# Altium schematic symbol library Dart_Controller_Schlib.SchLib: 218 symbols (part 1 of 2)
Pins are listed as number, name and electrical type; pins without a type are passive.

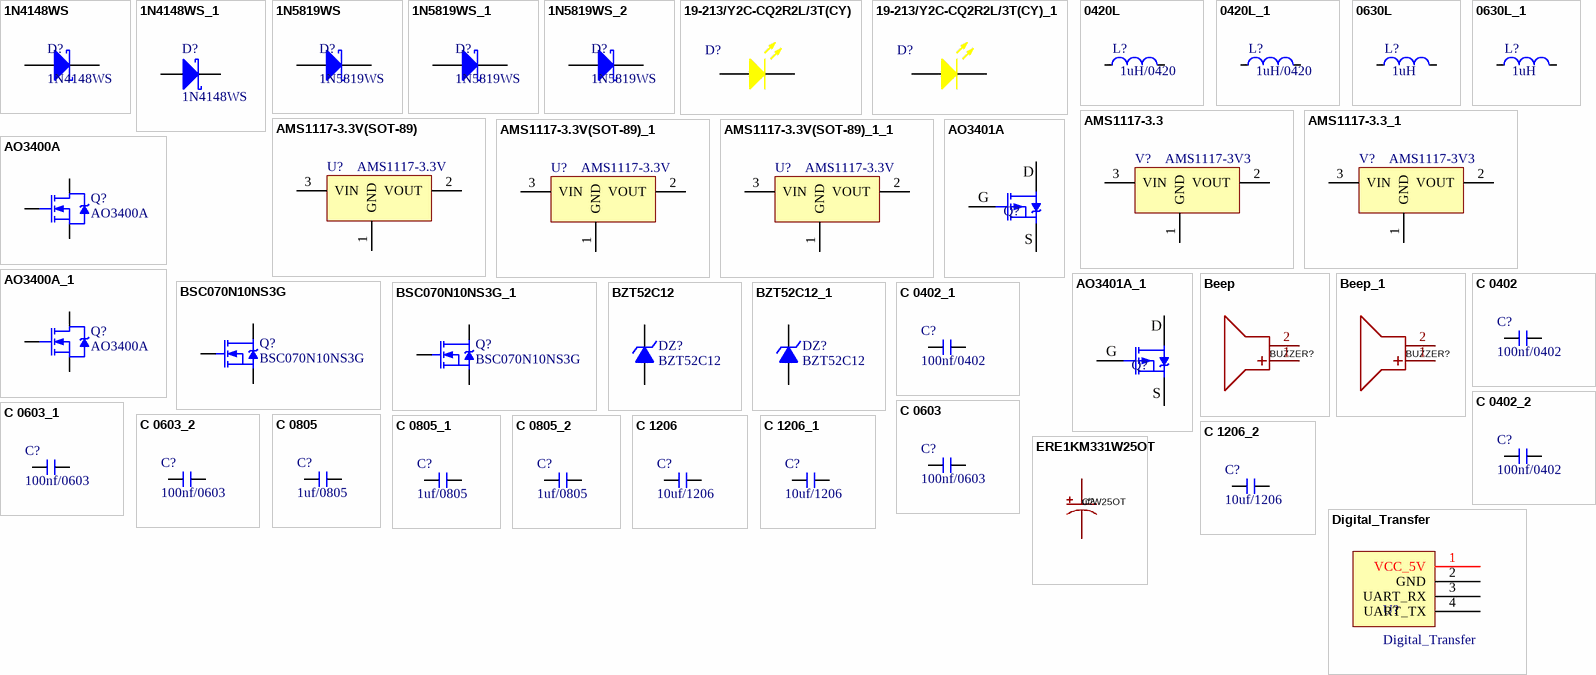
[diagram p0: symbols 1N4148WS to ERE1KM331W25OT]

## 1N4148WS
designator D?
开关二极管; BOM名称: 肖特基二极管; 学习资源: https://shop463601444.taobao.com
footprint SOD-323_L1.8-W1.3-LS2.5-RD
pins: 1 A, 2 K

## 1N4148WS_1
designator D?, comment 1N4148WS
开关二极管; BOM名称: 肖特基二极管; 属性: 40V/1A; 封装库来自淘宝 ID：黄晶宝石: https://shop463601444.taobao.com
footprint SOD-323_L1.8-W1.3-LS2.5-RD
pins: 1 A, 2 K

## 1N5819WS
designator D?
肖特基二极管; BOM名称: 肖特基二极管; 学习资源: https://shop463601444.taobao.com
footprint SOD-323_L1.8-W1.3-LS2.5-RD
pins: 1 A, 2 K

## 1N5819WS_1
designator D?, comment 1N5819WS
肖特基二极管; BOM名称: 肖特基二极管; 学习资源: https://shop463601444.taobao.com
footprint SOD-323_L1.8-W1.3-LS2.5-RD
pins: 1 A, 2 K

## 1N5819WS_2
designator D?, comment 1N5819WS
肖特基二极管; BOM名称: 肖特基二极管; 学习资源: https://shop463601444.taobao.com
footprint SOD-323_L1.8-W1.3-LS2.5-RD
pins: 1 A, 2 K

## 19-213/Y2C-CQ2R2L/3T(CY)
designator D?, comment LED_Y/0603  (value not drawn)
发光二极管/黄色; Published: 8-Jun-2000; LatestRevisionDate: 08-Jul-2005; LatestRevisionNote: Mech Layer 1 removed.; PackageReference: LED-0; Publisher: Altium Limited
footprint LED0603-RD-YELLOW
pins: A, K

## 19-213/Y2C-CQ2R2L/3T(CY)_1
designator D?, comment LED_Y/0603  (value not drawn)
发光二极管/黄色; Published: 8-Jun-2000; LatestRevisionDate: 08-Jul-2005; LatestRevisionNote: Mech Layer 1 removed.; PackageReference: LED-0; Publisher: Altium Limited
footprint LED0603-RD-YELLOW
pins: A, K

## 0420L
designator L?, comment 1uH/0420
功率电感
footprint IND-SMD_L4.4-W4.2
pins: 1, 2

## 0420L_1
designator L?, comment 1uH/0420
功率电感
footprint IND-SMD_L4.4-W4.2
pins: 1, 2

## 0630L
designator L?, comment 1uH
功率电感
footprint L-SMD-0630 (一体化成型电感)
pins: 1, 2

## 0630L_1
designator L?, comment 1uH
功率电感
footprint L-SMD-0630 (一体化成型电感)
pins: 1, 2

## AMS1117-3.3
designator V?, comment AMS1117-3V3
线性稳压; BOM名称: 稳压芯片; 淘宝ID: 封装库来自淘宝 ID：黄晶宝石; 欢迎光临淘宝店铺: https://shop463601444.taobao.com
footprint SOT-223 (封装库来自淘宝卖家 ID：黄晶宝石)
pins: 1 GND, 2 VOUT, 3 VIN

## AMS1117-3.3_1
designator V?, comment AMS1117-3V3
线性稳压; BOM名称: 稳压芯片; 淘宝ID: 封装库来自淘宝 ID：黄晶宝石; 欢迎光临淘宝店铺: https://shop463601444.taobao.com
footprint SOT-223 (封装库来自淘宝卖家 ID：黄晶宝石)
pins: 1 GND, 2 VOUT, 3 VIN

## AMS1117-3.3V(SOT-89)
designator U?, comment AMS1117-3.3V
LDO; BOM名称: 稳压芯片; 淘宝ID: 封装库来自淘宝 ID：黄晶宝石; 欢迎光临淘宝店铺: https://shop463601444.taobao.com
footprint SOT-89 (封装库来自淘宝卖家 ID：黄晶宝石)
pins: 1 GND, 2 VOUT, 3 VIN

## AMS1117-3.3V(SOT-89)_1
designator U?, comment AMS1117-3.3V
LDO; BOM名称: 稳压芯片; 淘宝ID: 封装库来自淘宝 ID：黄晶宝石; 欢迎光临淘宝店铺: https://shop463601444.taobao.com
footprint SOT-89 (封装库来自淘宝卖家 ID：黄晶宝石)
pins: 1 GND, 2 VOUT, 3 VIN

## AMS1117-3.3V(SOT-89)_1_1
designator U?, comment AMS1117-3.3V
LDO; BOM名称: 稳压芯片; 淘宝ID: 封装库来自淘宝 ID：黄晶宝石; 欢迎光临淘宝店铺: https://shop463601444.taobao.com
footprint SOT-89 (封装库来自淘宝卖家 ID：黄晶宝石)
pins: 1 GND, 2 VOUT, 3 VIN

## AO3400A
designator Q?
NMOS; Note: Pin 2 is electrically connected to pin 4.; Published: 8-Jun-2000; LatestRevisionDate: 17-Jul-2002; LatestRevisionNote: Re-released for DXP Platform.; DatasheetVersion: PD-9.814; PackageVersion: Feb-1997; PackageReference: TO-220AB; Publisher: Altium Limited; PackageDescription: TO, Thru-Hole, Vertical, Heatsink Mounted; 3 In-Line Leads; Pitch 2.54 mm; ComponentLink1Description: Manufacturer Link; ComponentLink1URL: http://www.irf.com/
footprint SOT23-3L (3x1.3x1mm(长宽高)    封装库来自淘宝卖家 ID：黄晶宝石)
pins: 1 G, 2 S, 3 D

## AO3400A_1
designator Q?, comment AO3400A
NMOS; Note: Pin 2 is electrically connected to pin 4.; Published: 8-Jun-2000; LatestRevisionDate: 17-Jul-2002; LatestRevisionNote: Re-released for DXP Platform.; DatasheetVersion: PD-9.814; PackageVersion: Feb-1997; PackageReference: TO-220AB; Publisher: Altium Limited; PackageDescription: TO, Thru-Hole, Vertical, Heatsink Mounted; 3 In-Line Leads; Pitch 2.54 mm; ComponentLink1Description: Manufacturer Link; ComponentLink1URL: http://www.irf.com/
footprint SOT23-3L (3x1.3x1mm(长宽高)    封装库来自淘宝卖家 ID：黄晶宝石)
pins: 1 G, 2 S, 3 D

## AO3401A
designator Q?  (value not drawn)
PMOS; BOM名称: P沟道场效应管; 版权归属: 源创客; 学习资源: www.ooocke.com
footprint SOT23-3L (3x1.3x1mm(长宽高)    封装库来自淘宝卖家 ID：黄晶宝石)
pins: 1 G, 2 S, 3 D

## AO3401A_1
designator Q?, comment AO3401A  (value not drawn)
PMOS; BOM名称: P沟道场效应管; 版权归属: 源创客; 学习资源: www.ooocke.com
footprint SOT23-3L (3x1.3x1mm(长宽高)    封装库来自淘宝卖家 ID：黄晶宝石)
pins: 1 G, 2 S, 3 D

## Beep
designator BUZZER?, comment 2.7kHz  (value not drawn)
YS-SBZ9650DYB05; Manufacturer: Fengming(锋鸣电子); Symbol: YS-SBZ9650DYB05_C409830; Add into BOM: yes; Oscillator Circuit: 有源(内含驱动线路); Operating Voltage: 3V~7V; Sound Pressure Level (SPL): 80dB@5V,10cm; Device: YS-SBZ9650DYB05; LCSC Part Name: 贴片有源蜂鸣器5V; Supplier Part: C409830; Manufacturer Part: YS-SBZ9650DYB05; Supplier Footprint: SMD,9.6x9.6mm; JLCPCB Part Class: Extended Part; Datasheet: https://atta.szlcsc.com/upload/public/pdf/source/20191217/C409830_8EC3C70066086F723D62F9967ED58A07.pdf; Supplier: LCSC; Convert to PCB: yes; Value: 2.7kHz; Length: 9.6mm; Width: 9.6mm; Height: 5.3mm
footprint Beep
pins: 1 +, 2 -

## Beep_1
designator BUZZER?, comment 2.7kHz  (value not drawn)
YS-SBZ9650DYB05; Manufacturer: Fengming(锋鸣电子); Symbol: YS-SBZ9650DYB05_C409830; Add into BOM: yes; Oscillator Circuit: 有源(内含驱动线路); Operating Voltage: 3V~7V; Sound Pressure Level (SPL): 80dB@5V,10cm; Device: YS-SBZ9650DYB05; LCSC Part Name: 贴片有源蜂鸣器5V; Supplier Part: C409830; Manufacturer Part: YS-SBZ9650DYB05; Supplier Footprint: SMD,9.6x9.6mm; JLCPCB Part Class: Extended Part; Datasheet: https://atta.szlcsc.com/upload/public/pdf/source/20191217/C409830_8EC3C70066086F723D62F9967ED58A07.pdf; Supplier: LCSC; Convert to PCB: yes; Value: 2.7kHz; Length: 9.6mm; Width: 9.6mm; Height: 5.3mm
footprint Beep
pins: 1 +, 2 -

## BSC070N10NS3G
designator Q?
N沟道场效应管
footprint PG-TDSON-8
pins: D, G, S

## BSC070N10NS3G_1
designator Q?, comment BSC070N10NS3G
N沟道场效应管
footprint PG-TDSON-8
pins: D, G, S

## BZT52C12
designator DZ?
稳压二极管; BOM名称: 3V/0.5W稳压管; 版权归属: 封装库来自淘宝 ID：黄晶宝石; 学习资源: www.ooocke.com
footprint BZT52C12 (稳压二级管)
pins: 1 A, 2 K

## BZT52C12_1
designator DZ?, comment BZT52C12
稳压二极管; BOM名称: 3V/0.5W稳压管; 版权归属: 封装库来自淘宝 ID：黄晶宝石; 学习资源: www.ooocke.com
footprint BZT52C12 (稳压二级管)
pins: 1 A, 2 K

## C 0402
designator C?, comment 100nf/0402
贴片电容; BOM名称: 无极性贴片电容; 淘宝ID: 封装库来自淘宝 ID：黄晶宝石; 联系售后: https://shop463601444.taobao.com
footprint C 0402_M (无极性贴片电容                                  淘宝ID:黄晶宝石)
pins: 1, 2

## C 0402_1
designator C?, comment 100nf/0402
贴片电容; BOM名称: 无极性贴片电容; 淘宝ID: 封装库来自淘宝 ID：黄晶宝石; 联系售后: https://shop463601444.taobao.com
footprint C 0402_M (无极性贴片电容                                  淘宝ID:黄晶宝石)
pins: 1, 2

## C 0402_2
designator C?, comment 100nf/0402
贴片电容; BOM名称: 无极性贴片电容; 淘宝ID: 封装库来自淘宝 ID：黄晶宝石; 联系售后: https://shop463601444.taobao.com
footprint C 0402_M (无极性贴片电容                                  淘宝ID:黄晶宝石)
pins: 1, 2

## C 0603
designator C?, comment 100nf/0603
贴片电容; BOM名称: 无极性贴片电容; 淘宝ID: 封装库来自淘宝 ID：黄晶宝石; 联系售后: https://shop463601444.taobao.com
footprint C 0603_M (无极性贴片电容                                淘宝ID:黄晶宝石)
pins: 1, 2

## C 0603_1
designator C?, comment 100nf/0603
贴片电容; BOM名称: 无极性贴片电容; 淘宝ID: 封装库来自淘宝 ID：黄晶宝石; 联系售后: https://shop463601444.taobao.com
footprint C 0603_M (无极性贴片电容                                淘宝ID:黄晶宝石)
pins: 1, 2

## C 0603_2
designator C?, comment 100nf/0603
贴片电容; BOM名称: 无极性贴片电容; 淘宝ID: 封装库来自淘宝 ID：黄晶宝石; 联系售后: https://shop463601444.taobao.com
footprint C 0603_M (无极性贴片电容                                淘宝ID:黄晶宝石)
pins: 1, 2

## C 0805
designator C?, comment 1uf/0805
贴片电容; BOM名称: 无极性贴片电容; 淘宝ID: 封装库来自淘宝 ID：黄晶宝石; 联系售后: https://shop463601444.taobao.com
footprint C 0805_M (无极性贴片电容                                         淘宝ID:黄晶宝石)
pins: 1, 2

## C 0805_1
designator C?, comment 1uf/0805
贴片电容; BOM名称: 无极性贴片电容; 淘宝ID: 封装库来自淘宝 ID：黄晶宝石; 联系售后: https://shop463601444.taobao.com
footprint C 0805_M (无极性贴片电容                                         淘宝ID:黄晶宝石)
pins: 1, 2

## C 0805_2
designator C?, comment 1uf/0805
贴片电容; BOM名称: 无极性贴片电容; 淘宝ID: 封装库来自淘宝 ID：黄晶宝石; 联系售后: https://shop463601444.taobao.com
footprint C 0805_M (无极性贴片电容                                         淘宝ID:黄晶宝石)
pins: 1, 2

## C 1206
designator C?, comment 10uf/1206
贴片电容; BOM名称: 无极性贴片电容; 淘宝ID: 封装库来自淘宝 ID：黄晶宝石; 联系售后: https://shop463601444.taobao.com
footprint C 1206_M (无极性贴片电容)
pins: 1, 2

## C 1206_1
designator C?, comment 10uf/1206
贴片电容; BOM名称: 无极性贴片电容; 淘宝ID: 封装库来自淘宝 ID：黄晶宝石; 联系售后: https://shop463601444.taobao.com
footprint C 1206_M (无极性贴片电容)
pins: 1, 2

## C 1206_2
designator C?, comment 10uf/1206
贴片电容; BOM名称: 无极性贴片电容; 淘宝ID: 封装库来自淘宝 ID：黄晶宝石; 联系售后: https://shop463601444.taobao.com
footprint C 1206_M (无极性贴片电容)
pins: 1, 2

## Digital_Transfer
designator U?
数传
footprint Digital_Transfer
pins: 1 VCC_5V, 2 GND, 3 UART_RX, 4 UART_TX

## ERE1KM331W25OT
designator C?, comment uf/W25OT
Manufacturer: AISHI(艾华集团); Symbol: ERE1KM331W25OT; Add into BOM: yes; Value: 330uF; Tolerance: ±20%; Rated Voltage: 100V; φD: 12.5mm; L: 25mm; Lifetime @ Temp: 4000hrs@105℃; Device: ERE1KM331W25OT; LCSC Part Name: 330uF ±20% 100V; Supplier Part: C383057; Manufacturer Part: ERE1KM331W25OT; Supplier Footprint: 插件,D12.5xL25mm; JLCPCB Part Class: Extended Part; Datasheet: https://atta.szlcsc.com/upload/public/pdf/source/20190702/C401559_D116D2C5ED42D458EC9986A0749FDD04.pdf; Supplier: LCSC; Convert to PCB: yes; Ripple Current: -; Equivalent Series Resistance(ESR): -; Lead Spacing: 5mm
footprint ERE1KM331W25OT
pins: 1, 2

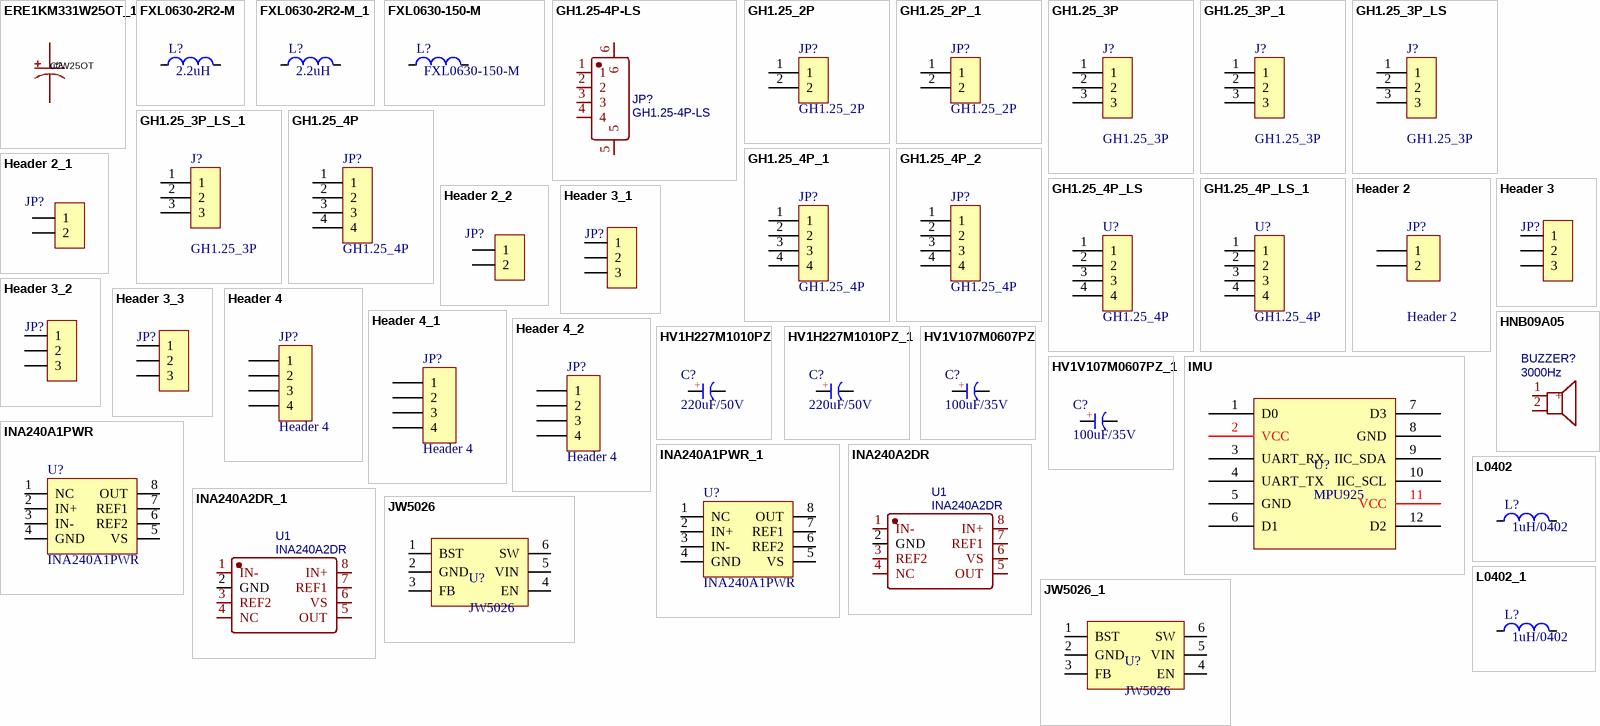
[diagram p1: symbols ERE1KM331W25OT_1 to L0402_1]

## ERE1KM331W25OT_1
designator C?, comment uf/W25OT
Manufacturer: AISHI(艾华集团); Symbol: ERE1KM331W25OT; Add into BOM: yes; Value: 330uF; Tolerance: ±20%; Rated Voltage: 100V; φD: 12.5mm; L: 25mm; Lifetime @ Temp: 4000hrs@105℃; Device: ERE1KM331W25OT; LCSC Part Name: 330uF ±20% 100V; Supplier Part: C383057; Manufacturer Part: ERE1KM331W25OT; Supplier Footprint: 插件,D12.5xL25mm; JLCPCB Part Class: Extended Part; Datasheet: https://atta.szlcsc.com/upload/public/pdf/source/20190702/C401559_D116D2C5ED42D458EC9986A0749FDD04.pdf; Supplier: LCSC; Convert to PCB: yes; Ripple Current: -; Equivalent Series Resistance(ESR): -; Lead Spacing: 5mm
footprint ERE1KM331W25OT
pins: 1, 2

## FXL0630-2R2-M
designator L?, comment 2.2uH
功率电感
footprint FXL0630-2R2-M (功率电感 2.2uh)
pins: 1, 2

## FXL0630-2R2-M_1
designator L?, comment 2.2uH
功率电感
footprint FXL0630-2R2-M (功率电感 2.2uh)
pins: 1, 2

## FXL0630-150-M
designator L?
功率电感
footprint L-SMD-0630 (一体化成型电感)
pins: 1, 2

## GH1.25-4P-LS
designator JP?
Manufacturer: XUNPU(讯普); Manufacturer Part: WAFER-GH1.25-4PLB; Contributor: lcsc; Supplier: LCSC; Supplier Part: C3029370; JLCPCB Part Class: Extended Part; spicePre: U; spiceSymbolName: WAFER-GH1.25-4PLB
footprint GH1.25-LS-4P (A1257WR-S-4P)
pins: 1, 2, 3, 4, 5, 6

## GH1.25_2P
designator JP?
footprint GH1.25-WS-2P (卧贴)
pins: 1, 2

## GH1.25_2P_1
designator JP?, comment GH1.25_2P
footprint GH1.25-WS-2P (卧贴)
pins: 1, 2

## GH1.25_3P
designator J?
footprint GH1.25-WS-3P (A1257WR-S-3P)
pins: 1, 2, 3

## GH1.25_3P_1
designator J?, comment GH1.25_3P
footprint GH1.25-WS-3P (A1257WR-S-3P)
pins: 1, 2, 3

## GH1.25_3P_LS
designator J?, comment GH1.25_3P
footprint GH1.25-LS-3P (A1257WR-S-3P)
pins: 1, 2, 3

## GH1.25_3P_LS_1
designator J?, comment GH1.25_3P
footprint GH1.25-LS-3P (A1257WR-S-3P)
pins: 1, 2, 3

## GH1.25_4P
designator JP?
GH1,25_4P
footprint GH1.25-WS-4P (卧贴)
pins: 1, 2, 3, 4

## GH1.25_4P_1
designator JP?, comment GH1.25_4P
GH1,25_4P
footprint GH1.25-WS-4P (卧贴)
pins: 1, 2, 3, 4

## GH1.25_4P_2
designator JP?, comment GH1.25_4P
GH1,25_4P
footprint GH1.25-WS-4P (卧贴)
pins: 1, 2, 3, 4

## GH1.25_4P_LS
designator U?, comment GH1.25_4P
footprint GH1.25-LS-4P (A1257WR-S-4P)
pins: 1, 2, 3, 4

## GH1.25_4P_LS_1
designator U?, comment GH1.25_4P
footprint GH1.25-LS-4P (A1257WR-S-4P)
pins: 1, 2, 3, 4

## Header 2
designator JP?
Header, 2-Pin; LatestRevisionDate: 17-Jul-2002; LatestRevisionNote: Re-released for DXP Platform.; Publisher: Altium Limited
footprint HDR2.54-LI-2P (封装库来自淘宝卖家 ID：黄晶宝石)
pins: 1, 2

## Header 2_1
designator JP?, comment HDR-1X2  (value not drawn)
2P接插件; 版权归属: 封装库来自淘宝 ID：黄晶宝石; BOM名称: 2P接插件; 联系售后: https://shop463601444.taobao.com
footprint HDR2.54-LI-2P (封装库来自淘宝卖家 ID：黄晶宝石)
pins: 1, 2

## Header 2_2
designator JP?, comment HDR-1X2  (value not drawn)
2P接插件; 版权归属: 封装库来自淘宝 ID：黄晶宝石; BOM名称: 2P接插件; 联系售后: https://shop463601444.taobao.com
footprint HDR2.54-LI-2P (封装库来自淘宝卖家 ID：黄晶宝石)
pins: 1, 2

## Header 3
designator JP?, comment HDR-1X3  (value not drawn)
3P接插件; 版权归属: 封装库来自淘宝 ID：黄晶宝石; BOM名称: 3P接插件; 学习资源: https://shop463601444.taobao.com
footprint XH2.54-WI-3P (接插件，3P)
pins: 1, 2, 3

## Header 3_1
designator JP?, comment HDR-1X3  (value not drawn)
3P接插件; 版权归属: 封装库来自淘宝 ID：黄晶宝石; BOM名称: 3P接插件; 学习资源: https://shop463601444.taobao.com
footprint XH2.54-LI-3P (接插件，3P  淘宝ID:黄晶宝石   店铺网址:https://shop463601444.taobao.com)
pins: 1, 2, 3

## Header 3_2
designator JP?, comment HDR-1X3  (value not drawn)
3P接插件; 版权归属: 封装库来自淘宝 ID：黄晶宝石; BOM名称: 3P接插件; 学习资源: https://shop463601444.taobao.com
footprint HDR2.54-LI-3P (排针，3脚)
pins: 1, 2, 3

## Header 3_3
designator JP?, comment HDR-1X3  (value not drawn)
3P接插件; 版权归属: 封装库来自淘宝 ID：黄晶宝石; BOM名称: 3P接插件; 学习资源: https://shop463601444.taobao.com
footprint XH2.54-WI-3P (接插件，3P)
footprint XH2.54-LI-3P (接插件，3P)
footprint HDR2.54-LI-3P (排针，3脚)
footprint HDR2.54-M-LI-3P (排母，3脚)
footprint HDR2.54-WI-3P (弯脚排针，3脚)
footprint HDR2.54-WS-3P (3P卧式贴片排针2.54)
footprint HDR2.54-Y-LI-3P (圆孔排母，3脚)
footprint HDR2.54-M-WS-3P (3P卧式贴片排母2.54)
footprint KF2510-LI-3P (接插件/2A)
footprint XH2.54-WS-3P (长：12.5mm，宽：8mm，高：6.1mm)
footprint XH2.54-LS-3P (长：12.5mm，宽：6mm，高：8.3mm)
footprint KF2EDGK-2.54-LI-3P (长：9.52mm，宽：8.1mm，高：10.1mm)
footprint KF2EDGK-2.54-WI-3P (长：9.52mm，宽：10.1mm，高：8.1mm)
pins: 1, 2, 3

## Header 4
designator JP?
Header, 4-Pin; LatestRevisionDate: 17-Jul-2002; LatestRevisionNote: Re-released for DXP Platform.; Publisher: Altium Limited
footprint HDR2.54-LI-4P (排针，4脚)
pins: 1, 2, 3, 4

## Header 4_1
designator JP?, comment Header 4
Header, 4-Pin; LatestRevisionDate: 17-Jul-2002; LatestRevisionNote: Re-released for DXP Platform.; Publisher: Altium Limited
footprint HDR2.54-LI-4P (排针，4脚)
pins: 1, 2, 3, 4

## Header 4_2
designator JP?, comment Header 4
Header, 4-Pin; LatestRevisionDate: 17-Jul-2002; LatestRevisionNote: Re-released for DXP Platform.; Publisher: Altium Limited
footprint HDR2.54-LI-4P (排针，4脚)
pins: 1, 2, 3, 4

## HNB09A05
designator BUZZER?, comment 3000Hz
蜂鸣器; Manufacturer: 华能; Manufacturer Part: HNB09A05; nameAlias: Value; Supplier: LCSC; Supplier Part: C96493; JLCPCB Part Class: Extended Part; spicePre: B; spiceSymbolName: HNB09A05
footprint BUZ-TH_BD9.6-P5.00-D0.7-FD
pins: 1 +, 2

## HV1H227M1010PZ
designator C?, comment 220uF/50V
固态电容220uF/50V; BOM名称: 直插电解电容; 淘宝ID: 封装库来自淘宝 ID：黄晶宝石; 联系售后: https://shop463601444.taobao.com
footprint CM F(10*10.2) (贴片电解电容，直径10mm，高10.2mm    淘宝ID:黄晶宝石)
pins: 1 A, 2 K
text: +

## HV1H227M1010PZ_1
designator C?, comment 220uF/50V
固态电容220uF/50V; BOM名称: 直插电解电容; 淘宝ID: 封装库来自淘宝 ID：黄晶宝石; 联系售后: https://shop463601444.taobao.com
footprint CM F(10*10.2) (贴片电解电容，直径10mm，高10.2mm    淘宝ID:黄晶宝石)
pins: 1 A, 2 K
text: +

## HV1V107M0607PZ
designator C?, comment 100uF/35V
固态电容100uF/35V; BOM名称: 直插电解电容; 淘宝ID: 封装库来自淘宝 ID：黄晶宝石; 联系售后: https://shop463601444.taobao.com
footprint CM D(6.3*7.7) (贴片电解电容，直径6.3mm，高7.7mm         淘宝ID:黄晶宝石)
pins: 1 A, 2 K
text: +

## HV1V107M0607PZ_1
designator C?, comment 100uF/35V
固态电容100uF/35V; BOM名称: 直插电解电容; 淘宝ID: 封装库来自淘宝 ID：黄晶宝石; 联系售后: https://shop463601444.taobao.com
footprint CM D(6.3*7.7) (贴片电解电容，直径6.3mm，高7.7mm         淘宝ID:黄晶宝石)
pins: 1 A, 2 K
text: +

## IMU
designator U?, comment MPU925
footprint JY901B_MPU9250
pins: 1 D0, 2 VCC, 3 UART_RX, 4 UART_TX, 5 GND, 6 D1, 7 D3, 8 GND, 9 IIC_SDA, 10 IIC_SCL, 11 VCC, 12 D2

## INA240A1PWR
designator U?
电流感应放大器
footprint SSOP8 (SSOP, Plastic; 8 Leads; Body Width 5.3 mm; Pitch 0.65 mm)
pins: 1 NC, 2 IN+, 3 IN-, 4 GND, 5 VS, 6 REF2, 7 REF1, 8 OUT

## INA240A1PWR_1
designator U?, comment INA240A1PWR
电流感应放大器
footprint SSOP8 (SSOP, Plastic; 8 Leads; Body Width 5.3 mm; Pitch 0.65 mm)
pins: 1 NC, 2 IN+, 3 IN-, 4 GND, 5 VS, 6 REF2, 7 REF1, 8 OUT

## INA240A2DR
designator U1
电流放大器; Manufacturer: TI(德州仪器); Contributor: LCSC; Supplier: LCSC; Supplier Part: C2060768; Manufacturer Part: INA240A2DR; JLCPCB Part Class: Extended Part; spicePre: U; spiceSymbolName: INA240A2DR
footprint SOP8_N
pins: 1 IN-, 2 GND, 3 REF2, 4 NC, 5 OUT, 6 VS, 7 REF1, 8 IN+

## INA240A2DR_1
designator U1, comment INA240A2DR
电流放大器; Manufacturer: TI(德州仪器); Contributor: LCSC; Supplier: LCSC; Supplier Part: C2060768; Manufacturer Part: INA240A2DR; JLCPCB Part Class: Extended Part; spicePre: U; spiceSymbolName: INA240A2DR
footprint SOP8_N
pins: 1 IN-, 2 GND, 3 REF2, 4 NC, 5 OUT, 6 VS, 7 REF1, 8 IN+

## JW5026
designator U?
降压芯片
footprint SOT23-6N (3x1.6x1.1mm(长宽高))
pins: 1 BST, 2 GND, 3 FB, 4 EN, 5 VIN, 6 SW

## JW5026_1
designator U?, comment JW5026
降压芯片
footprint SOT23-6N (3x1.6x1.1mm(长宽高))
pins: 1 BST, 2 GND, 3 FB, 4 EN, 5 VIN, 6 SW

## L0402
designator L?, comment 1uH/0402
贴片电感
footprint L 0402 (小功率贴片电感        淘宝ID:黄晶宝石)
pins: 1, 2

## L0402_1
designator L?, comment 1uH/0402
贴片电感
footprint L 0402 (小功率贴片电感        淘宝ID:黄晶宝石)
pins: 1, 2

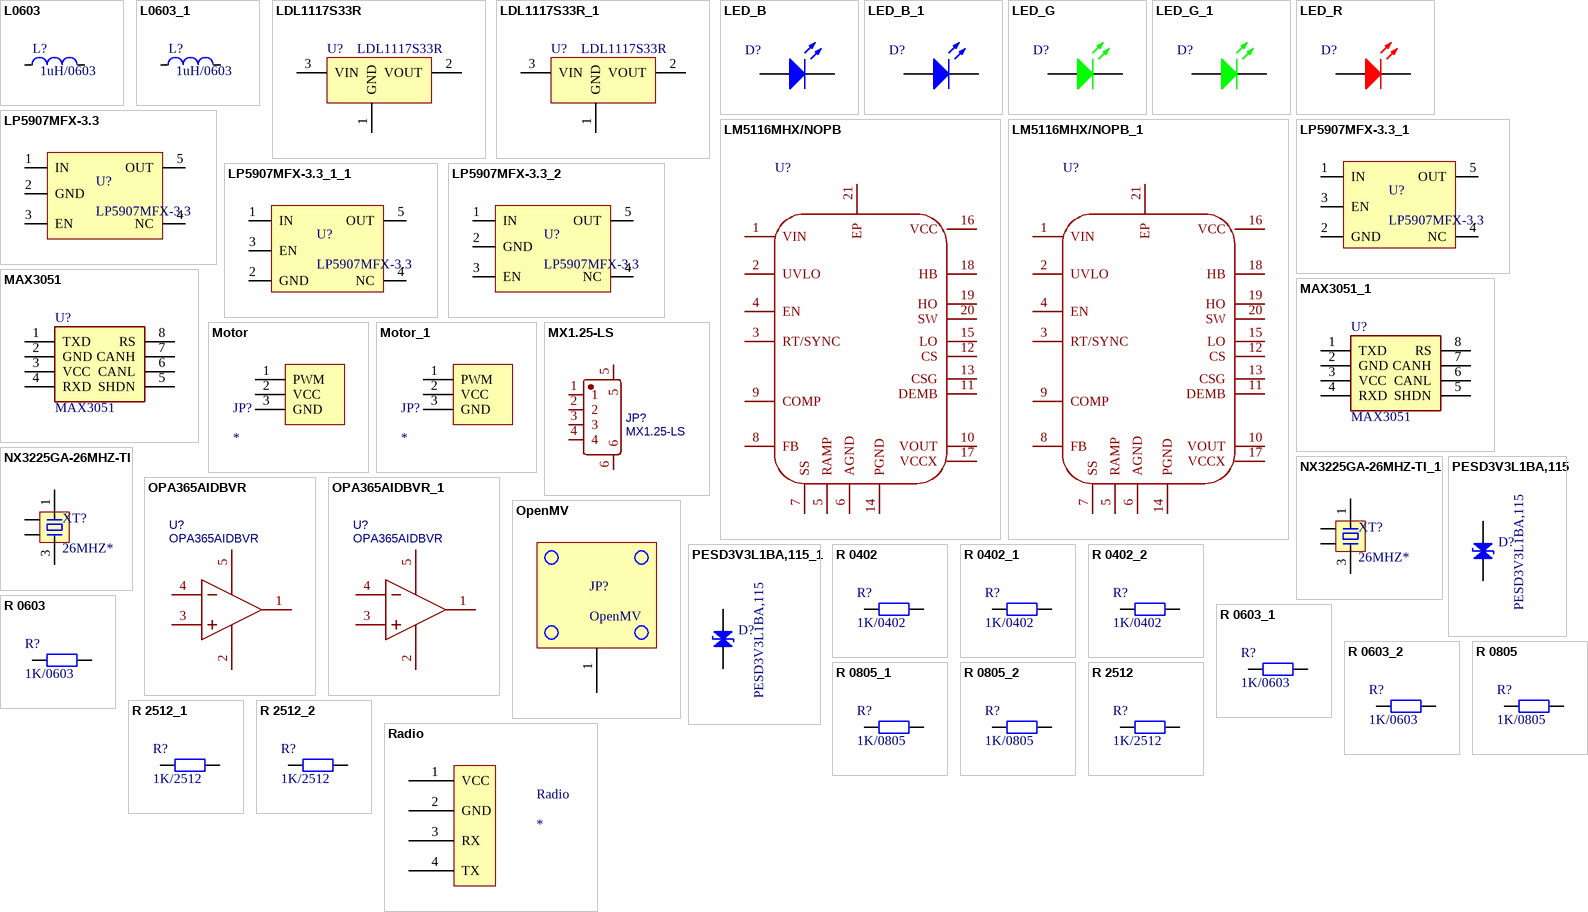
[diagram p2: symbols L0603 to Radio]

## L0603
designator L?, comment 1uH/0603
贴片电感
footprint L 0603 (小功率贴片电感        淘宝ID:黄晶宝石)
pins: 1, 2

## L0603_1
designator L?, comment 1uH/0603
贴片电感
footprint L 0603 (小功率贴片电感        淘宝ID:黄晶宝石)
pins: 1, 2

## LDL1117S33R
designator U?
线性稳压; BOM名称: 稳压芯片; 淘宝ID: 封装库来自淘宝 ID：黄晶宝石; 欢迎光临淘宝店铺: https://shop463601444.taobao.com
footprint SOT-223 (封装库来自淘宝卖家 ID：黄晶宝石)
pins: 1 GND, 2 VOUT, 3 VIN

## LDL1117S33R_1
designator U?, comment LDL1117S33R
线性稳压; BOM名称: 稳压芯片; 淘宝ID: 封装库来自淘宝 ID：黄晶宝石; 欢迎光临淘宝店铺: https://shop463601444.taobao.com
footprint SOT-223 (封装库来自淘宝卖家 ID：黄晶宝石)
pins: 1 GND, 2 VOUT, 3 VIN

## LED_B
designator D?, comment LED_B/0603  (value not drawn)
发光二极管; Published: 8-Jun-2000; LatestRevisionDate: 08-Jul-2005; LatestRevisionNote: Mech Layer 1 removed.; PackageReference: LED-0; Publisher: Altium Limited
footprint LED-0603B
pins: A, K

## LED_B_1
designator D?, comment LED_B/0603  (value not drawn)
发光二极管; Published: 8-Jun-2000; LatestRevisionDate: 08-Jul-2005; LatestRevisionNote: Mech Layer 1 removed.; PackageReference: LED-0; Publisher: Altium Limited
footprint LED-0603B
pins: A, K

## LED_G
designator D?, comment LED_G/0603  (value not drawn)
发光二极管; Published: 8-Jun-2000; LatestRevisionDate: 08-Jul-2005; LatestRevisionNote: Mech Layer 1 removed.; PackageReference: LED-0; Publisher: Altium Limited
footprint LED-0603G
pins: A, K

## LED_G_1
designator D?, comment LED_G/0603  (value not drawn)
发光二极管; Published: 8-Jun-2000; LatestRevisionDate: 08-Jul-2005; LatestRevisionNote: Mech Layer 1 removed.; PackageReference: LED-0; Publisher: Altium Limited
footprint LED-0603G
pins: A, K

## LED_R
designator D?, comment LED  (value not drawn)
发光二极管; Published: 8-Jun-2000; LatestRevisionDate: 08-Jul-2005; LatestRevisionNote: Mech Layer 1 removed.; PackageReference: LED-0; Publisher: Altium Limited
footprint LED0603-RD_RED
pins: 1 K, 2 A

## LM5116MHX/NOPB
designator U?  (value not drawn)
功能类型:降压型;输出类型:可调;工作电压:7V~60V;输出电压:1.215V~80V;输出电流:7A;; Manufacturer: TI(德州仪器); Add into BOM: yes; Function: 降压型; Output Type: 可调; Input Voltage: 7V~60V; Output Current: 7A; Switching Frequency: 50kHz~1MHz; Synchronous Rectification: 是; Number of Outputs: 1; Topology: 降压式; Quiescent Current (Iq): 10uA; Switch tube (built-in/external): 外置; Symbol: LM5116MHX; Device: LM5116MHX/NOPB; LCSC Part Name: 宽输入范围同步降压控制器; Supplier Part: C13755; Manufacturer Part: LM5116MHX/NOPB; Supplier Footprint: HTSSOP-20-EP; JLCPCB Part Class: 扩展库; Datasheet: https://www.ti.com/cn/lit/gpn/lm5116; Supplier: LCSC; Convert to PCB: yes; Output Voltage: 1.215V~80V; Operating Temperature: -40℃~+125℃
footprint LM5116MHX (HTSSOP-20-EP)
pins: 1 VIN, 2 UVLO, 3 RT/SYNC, 4 EN, 5 RAMP, 6 AGND, 7 SS, 8 FB, 9 COMP, 10 VOUT, 11 DEMB, 12 CS, 13 CSG, 14 PGND, 15 LO, 16 VCC, 17 VCCX, 18 HB, 19 HO, 20 SW, 21 EP

## LM5116MHX/NOPB_1
designator U?, comment LM5116MHX/NOPB  (value not drawn)
功能类型:降压型;输出类型:可调;工作电压:7V~60V;输出电压:1.215V~80V;输出电流:7A;; Manufacturer: TI(德州仪器); Add into BOM: yes; Function: 降压型; Output Type: 可调; Input Voltage: 7V~60V; Output Current: 7A; Switching Frequency: 50kHz~1MHz; Synchronous Rectification: 是; Number of Outputs: 1; Topology: 降压式; Quiescent Current (Iq): 10uA; Switch tube (built-in/external): 外置; Symbol: LM5116MHX; Device: LM5116MHX/NOPB; LCSC Part Name: 宽输入范围同步降压控制器; Supplier Part: C13755; Manufacturer Part: LM5116MHX/NOPB; Supplier Footprint: HTSSOP-20-EP; JLCPCB Part Class: 扩展库; Datasheet: https://www.ti.com/cn/lit/gpn/lm5116; Supplier: LCSC; Convert to PCB: yes; Output Voltage: 1.215V~80V; Operating Temperature: -40℃~+125℃
footprint LM5116MHX (HTSSOP-20-EP)
pins: 1 VIN, 2 UVLO, 3 RT/SYNC, 4 EN, 5 RAMP, 6 AGND, 7 SS, 8 FB, 9 COMP, 10 VOUT, 11 DEMB, 12 CS, 13 CSG, 14 PGND, 15 LO, 16 VCC, 17 VCCX, 18 HB, 19 HO, 20 SW, 21 EP

## LP5907MFX-3.3
designator U?
LDO
footprint SOT23-5N (3x1.6x1.1mm(长宽高)  封装库来自淘宝卖家 ID：黄晶宝石)
pins: 1 IN, 2 GND, 3 EN, 4 NC, 5 OUT

## LP5907MFX-3.3_1
designator U?, comment LP5907MFX-3.3
LDO
footprint SOT23-5N (3x1.6x1.1mm(长宽高)  封装库来自淘宝卖家 ID：黄晶宝石)
pins: 1 IN, 2 GND, 3 EN, 4 NC, 5 OUT

## LP5907MFX-3.3_1_1
designator U?, comment LP5907MFX-3.3
LDO
footprint SOT23-5N (3x1.6x1.1mm(长宽高)  封装库来自淘宝卖家 ID：黄晶宝石)
pins: 1 IN, 2 GND, 3 EN, 4 NC, 5 OUT

## LP5907MFX-3.3_2
designator U?, comment LP5907MFX-3.3
LDO
footprint SOT23-5N (3x1.6x1.1mm(长宽高)  封装库来自淘宝卖家 ID：黄晶宝石)
pins: 1 IN, 2 GND, 3 EN, 4 NC, 5 OUT

## MAX3051
designator U?
CAN芯片
footprint SOT23-8N (3x1.6x1.1mm(长宽高))
pins: 1 TXD, 2 GND, 3 VCC, 4 RXD, 5 SHDN, 6 CANL, 7 CANH, 8 RS

## MAX3051_1
designator U?, comment MAX3051
CAN芯片
footprint SOT23-8N (3x1.6x1.1mm(长宽高))
pins: 1 TXD, 2 GND, 3 VCC, 4 RXD, 5 SHDN, 6 CANL, 7 CANH, 8 RS

## Motor
designator JP?
电机
footprint Motor
pins: 1 PWM, 2 VCC, 3 GND

## Motor_1
designator JP?
电机
footprint Motor
pins: 1 PWM, 2 VCC, 3 GND

## MX1.25-LS
designator JP?
Manufacturer: HCTL(华灿天禄); Manufacturer Part: HC-1.25-4PLT; Contributor: LCSC; Supplier: LCSC; Supplier Part: C2845390; JLCPCB Part Class: Extended Part; spicePre: C; spiceSymbolName: HC-1.25-4PLT
footprint MX 1.25-LS-4P (长：9.75m，宽：3.7mm，高：4.7mm)
pins: 1, 2, 3, 4, 5, 6

## NX3225GA-26MHZ-TI
designator XT?, comment 26MHZ*
footprint NX3225GA-26MHZ-TI (26MHZ 无源晶振)
pins: 1, 2, 3, 4

## NX3225GA-26MHZ-TI_1
designator XT?, comment 26MHZ*
footprint NX3225GA-26MHZ-TI (26MHZ 无源晶振)
pins: 1, 2, 3, 4

## OPA365AIDBVR
designator U?
运算放大器; Manufacturer: TI(德州仪器); Contributor: LCSC; Supplier: LCSC; Supplier Part: C96626; Manufacturer Part: OPA365AIDBVR; JLCPCB Part Class: Extended Part; spicePre: U; spiceSymbolName: OPA365AIDBVR
footprint SOT23-5N (3x1.6x1.1mm(长宽高)  封装库来自淘宝卖家 ID：黄晶宝石)
pins: 1 OUT, 2 VS-, 3 IN+, 4 IN-, 5 VS+

## OPA365AIDBVR_1
designator U?, comment OPA365AIDBVR
运算放大器; Manufacturer: TI(德州仪器); Contributor: LCSC; Supplier: LCSC; Supplier Part: C96626; Manufacturer Part: OPA365AIDBVR; JLCPCB Part Class: Extended Part; spicePre: U; spiceSymbolName: OPA365AIDBVR
footprint SOT23-5N (3x1.6x1.1mm(长宽高)  封装库来自淘宝卖家 ID：黄晶宝石)
pins: 1 OUT, 2 VS-, 3 IN+, 4 IN-, 5 VS+

## OpenMV
designator JP?
OpenMV定位孔
footprint OpenMV_Hole
pins: 1

## PESD3V3L1BA,115
designator D?
ESD二极管（双向）
footprint SOD-323_L1.8-W1.3-LS2.5-RD
pins: 1, 2

## PESD3V3L1BA,115_1
designator D?, comment PESD3V3L1BA,115
ESD二极管（双向）
footprint SOD-323_L1.8-W1.3-LS2.5-RD
pins: 1, 2

## R 0402
designator R?, comment 1K/0402
贴片电阻; 版权归属: 来自淘宝 ID：黄晶宝石; BOM名称: 贴片电阻; 联系售后: https://shop463601444.taobao.com
footprint R 0402_M (1/16W贴片电阻       淘宝ID:黄晶宝石)
pins: 1, 2

## R 0402_1
designator R?, comment 1K/0402
贴片电阻; 版权归属: 来自淘宝 ID：黄晶宝石; BOM名称: 贴片电阻; 联系售后: https://shop463601444.taobao.com
footprint R 0402_M (1/16W贴片电阻       淘宝ID:黄晶宝石)
pins: 1, 2

## R 0402_2
designator R?, comment 1K/0402
贴片电阻; 版权归属: 来自淘宝 ID：黄晶宝石; BOM名称: 贴片电阻; 联系售后: https://shop463601444.taobao.com
footprint R 0402_M (1/16W贴片电阻       淘宝ID:黄晶宝石)
pins: 1, 2

## R 0603
designator R?, comment 1K/0603
贴片电阻; 版权归属: 来自淘宝 ID：黄晶宝石; BOM名称: 贴片电阻; 联系售后: https://shop463601444.taobao.com
footprint R 0603_M (1/10W贴片电阻)
pins: 1, 2

## R 0603_1
designator R?, comment 1K/0603
贴片电阻; 版权归属: 来自淘宝 ID：黄晶宝石; BOM名称: 贴片电阻; 联系售后: https://shop463601444.taobao.com
footprint R 0603_M (1/10W贴片电阻)
pins: 1, 2

## R 0603_2
designator R?, comment 1K/0603
贴片电阻; 版权归属: 来自淘宝 ID：黄晶宝石; BOM名称: 贴片电阻; 联系售后: https://shop463601444.taobao.com
footprint R 0603_M (1/10W贴片电阻)
pins: 1, 2

## R 0805
designator R?, comment 1K/0805
贴片电阻; 版权归属: 来自淘宝 ID：黄晶宝石; BOM名称: 贴片电阻; 联系售后: https://shop463601444.taobao.com
footprint R 0805_M (1/8W贴片电阻)
pins: 1, 2

## R 0805_1
designator R?, comment 1K/0805
贴片电阻; 版权归属: 来自淘宝 ID：黄晶宝石; BOM名称: 贴片电阻; 联系售后: https://shop463601444.taobao.com
footprint R 0805_M (1/8W贴片电阻)
pins: 1, 2

## R 0805_2
designator R?, comment 1K/0805
贴片电阻; 版权归属: 来自淘宝 ID：黄晶宝石; BOM名称: 贴片电阻; 联系售后: https://shop463601444.taobao.com
footprint R 0805_M (1/8W贴片电阻)
pins: 1, 2

## R 2512
designator R?, comment 1K/2512
贴片电阻; 版权归属: 来自淘宝 ID：黄晶宝石; BOM名称: 贴片电阻; 联系售后: https://shop463601444.taobao.com
footprint R 2512_M (1W贴片电阻  淘宝ID:黄晶宝石)
pins: 1, 2

## R 2512_1
designator R?, comment 1K/2512
贴片电阻; 版权归属: 来自淘宝 ID：黄晶宝石; BOM名称: 贴片电阻; 联系售后: https://shop463601444.taobao.com
footprint R 2512_M (1W贴片电阻  淘宝ID:黄晶宝石)
pins: 1, 2

## R 2512_2
designator R?, comment 1K/2512
贴片电阻; 版权归属: 来自淘宝 ID：黄晶宝石; BOM名称: 贴片电阻; 联系售后: https://shop463601444.taobao.com
footprint R 2512_M (1W贴片电阻  淘宝ID:黄晶宝石)
pins: 1, 2

## Radio
designator Radio
无线电-匿名数传
footprint Radio (无线电-匿名数传)
pins: 1 VCC, 2 GND, 3 RX, 4 TX

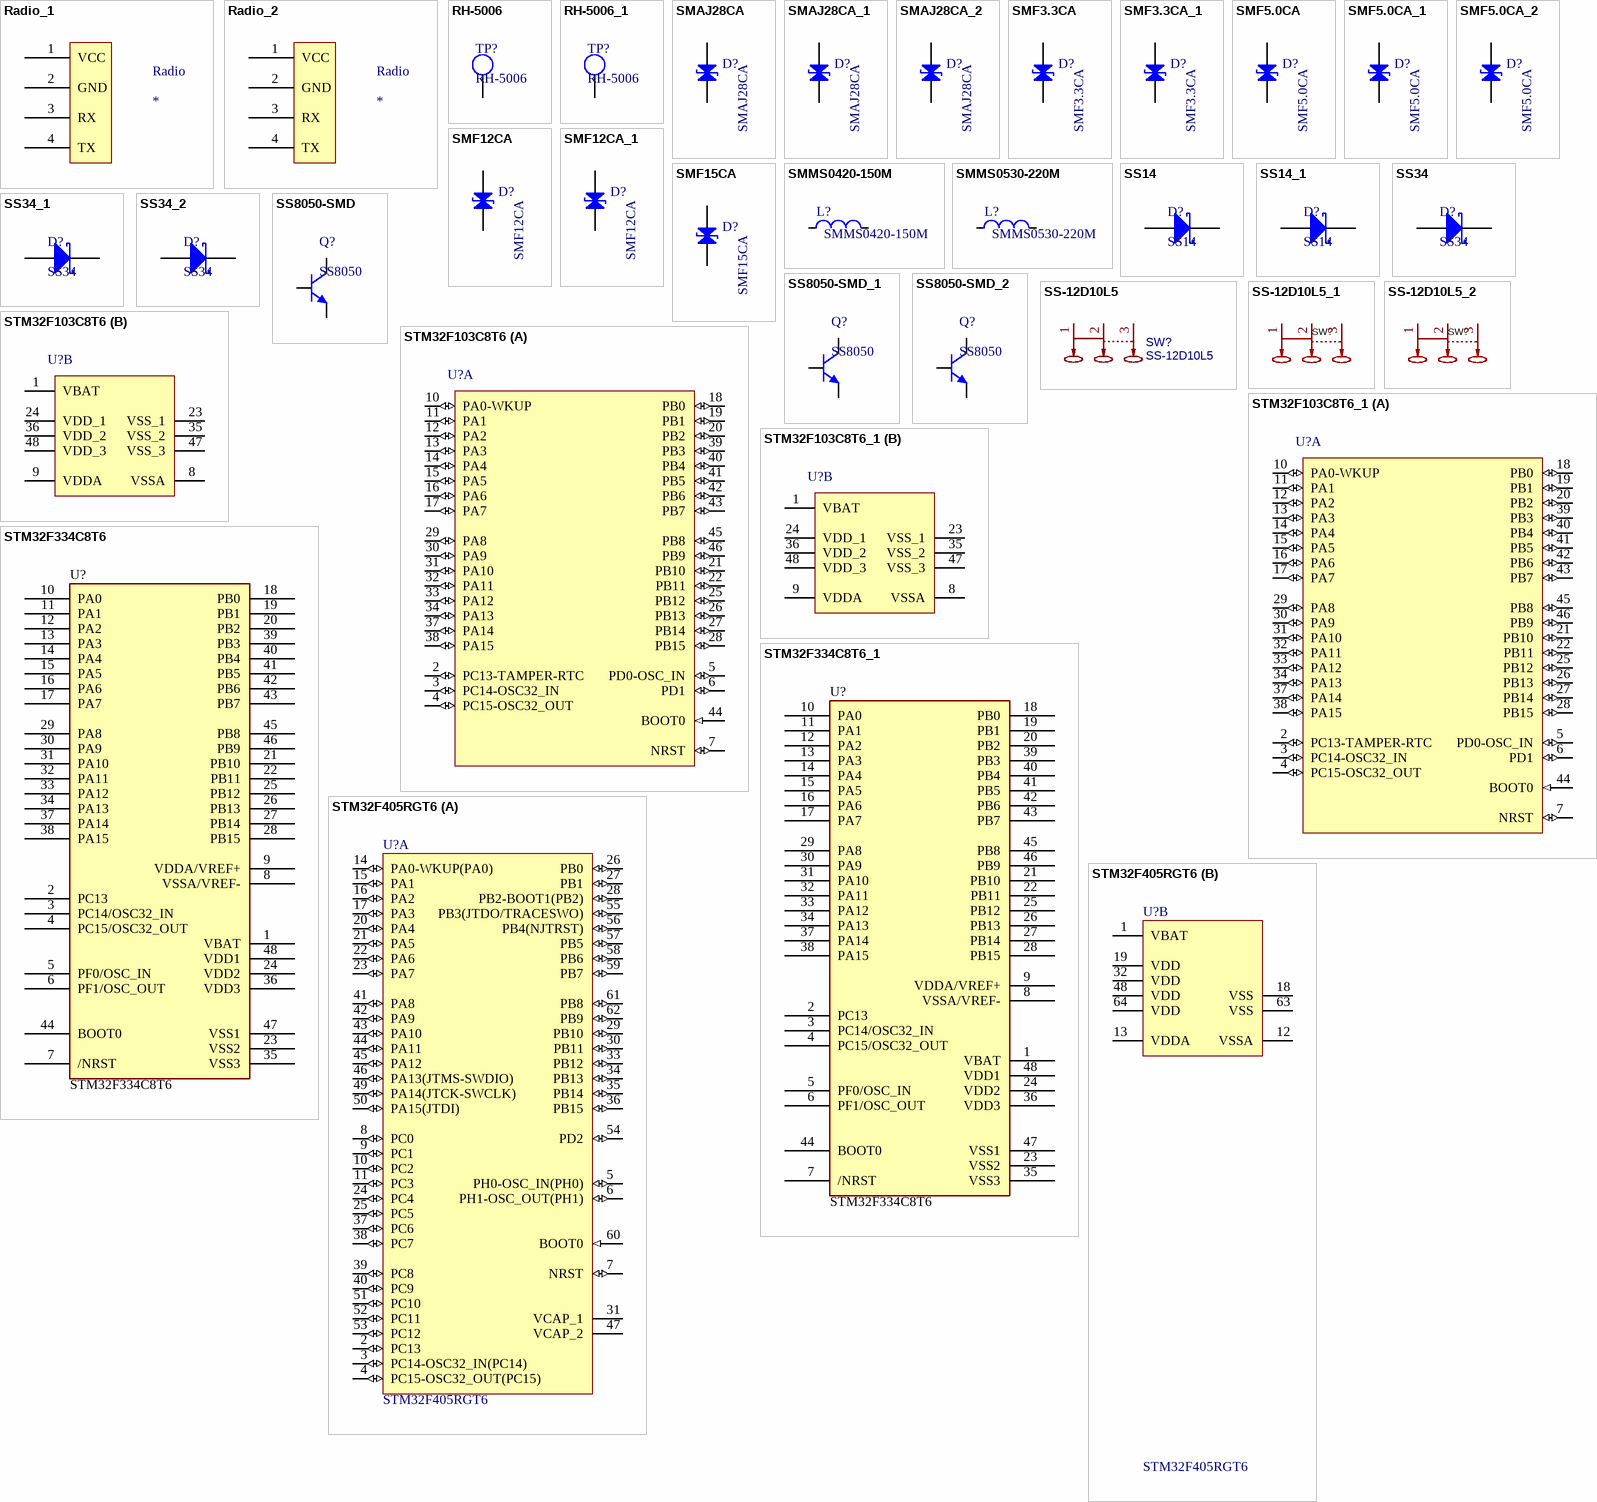
[diagram p3: symbols Radio_1 to STM32F405RGT6]

## Radio_1
designator Radio
无线电-匿名数传
footprint Radio (无线电-匿名数传)
pins: 1 VCC, 2 GND, 3 RX, 4 TX

## Radio_2
designator Radio
无线电-匿名数传
footprint Radio (无线电-匿名数传)
pins: 1 VCC, 2 GND, 3 RX, 4 TX

## RH-5006
designator TP?
测试环
footprint TH_BD3.2-D2.0
pins: 1

## RH-5006_1
designator TP?, comment RH-5006
测试环
footprint TH_BD3.2-D2.0
pins: 1

## SMAJ28CA
designator D?
双向瞬态电压抑制二极管
footprint SMA (4.5x2.6*2.2mm（长宽高，不包括引脚）)
pins: 1, 2

## SMAJ28CA_1
designator D?, comment SMAJ28CA
双向瞬态电压抑制二极管
footprint SMA (4.5x2.6*2.2mm（长宽高，不包括引脚）)
pins: 1, 2

## SMAJ28CA_2
designator D?, comment SMAJ28CA
双向瞬态电压抑制二极管
footprint SMA (4.5x2.6*2.2mm（长宽高，不包括引脚）)
pins: 1, 2

## SMF3.3CA
designator D?
双向TVS二极管
footprint SOD-123F (2.7x1.6X1.1mm（长宽高，不包括引脚）)
pins: 1, 2

## SMF3.3CA_1
designator D?, comment SMF3.3CA
双向TVS二极管
footprint SOD-123F (2.7x1.6X1.1mm（长宽高，不包括引脚）)
pins: 1, 2

## SMF5.0CA
designator D?
双向瞬态电压抑制二极管
footprint SOD-123FL_L2.8-W1.8-LS3.7-BI
pins: 1, 2

## SMF5.0CA_1
designator D?, comment SMF5.0CA
双向TVS二极管
footprint SOD-123F (2.7x1.6X1.1mm（长宽高，不包括引脚）)
pins: 1, 2

## SMF5.0CA_2
designator D?, comment SMF5.0CA
双向TVS二极管
footprint SOD-123F (2.7x1.6X1.1mm（长宽高，不包括引脚）)
pins: 1, 2

## SMF12CA
designator D?
双向TVS二极管
footprint SOD-123F (2.7x1.6X1.1mm（长宽高，不包括引脚）)
pins: 1, 2

## SMF12CA_1
designator D?, comment SMF12CA
双向TVS二极管
footprint SOD-123F (2.7x1.6X1.1mm（长宽高，不包括引脚）)
pins: 1, 2

## SMF15CA
designator D?
双向瞬态电压抑制二极管
footprint SOD-123FL_L2.8-W1.8-LS3.7-BI
pins: 1, 2

## SMMS0420-150M
designator L?
功率电感
footprint IND-SMD_L4.6-W4.2_SMMS0420
pins: 1, 2

## SMMS0530-220M
designator L?
功率电感
footprint IND-SMD_L5.5-W5.2
pins: 1, 2

## SS14
designator D?
肖特基二极管; BOM名称: 肖特基二极管; 学习资源: https://shop463601444.taobao.com
footprint SMA (4.5x2.6*2.2mm（长宽高，不包括引脚）)
pins: 1 A, 2 K

## SS14_1
designator D?, comment SS14
肖特基二极管; BOM名称: 肖特基二极管; 学习资源: https://shop463601444.taobao.com
footprint SMA (4.5x2.6*2.2mm（长宽高，不包括引脚）)
pins: 1 A, 2 K

## SS34
designator D?
肖特基二极管; BOM名称: 肖特基二极管; 学习资源: https://shop463601444.taobao.com
footprint SMA (4.5x2.6*2.2mm（长宽高，不包括引脚）)
pins: 1 A, 2 K

## SS34_1
designator D?, comment SS34
肖特基二极管; BOM名称: 肖特基二极管; 学习资源: https://shop463601444.taobao.com
footprint SMA (4.5x2.6*2.2mm（长宽高，不包括引脚）)
pins: 1 A, 2 K

## SS34_2
designator D?, comment SS34
肖特基二极管; BOM名称: 肖特基二极管; 学习资源: https://shop463601444.taobao.com
footprint SMA (4.5x2.6*2.2mm（长宽高，不包括引脚）)
pins: 1 A, 2 K

## SS8050-SMD
designator Q?, comment SS8050
高频放大-NPN型; 版权归属: 封装库来自淘宝 ID：黄晶宝石; 属性: 40V 1.5A 1W 100MHZ; BOM名称: 高频放大-NPN型; 联系售后: https://shop463601444.taobao.com
footprint SOT23-3L (3x1.3x1mm(长宽高))
pins: 1 B, 2 E, 3 C

## SS8050-SMD_1
designator Q?, comment SS8050
高频放大-NPN型; 版权归属: 封装库来自淘宝 ID：黄晶宝石; 属性: 40V 1.5A 1W 100MHZ; BOM名称: 高频放大-NPN型; 联系售后: https://shop463601444.taobao.com
footprint SOT23-3L (3x1.3x1mm(长宽高))
pins: 1 B, 2 E, 3 C

## SS8050-SMD_2
designator Q?, comment SS8050
高频放大-NPN型; 版权归属: 封装库来自淘宝 ID：黄晶宝石; 属性: 40V 1.5A 1W 100MHZ; BOM名称: 高频放大-NPN型; 联系售后: https://shop463601444.taobao.com
footprint SOT23-3L (3x1.3x1mm(长宽高))
pins: 1 B, 2 E, 3 C

## SS-12D10L5
designator SW?
滑动开关; Manufacturer: XKB Connectivity(中国星坤); Contributor: LCSC; Supplier: LCSC; Supplier Part: C319012; Manufacturer Part: SS-12D10L5; spicePre: S; spiceSymbolName: SS-12D10L5
footprint SW-TH_SS-12D10L5
pins: 1, 2, 3

## SS-12D10L5_1
designator SW?, comment SS-12D10L5  (value not drawn)
滑动开关; Manufacturer: XKB Connectivity(中国星坤); Add into BOM: yes; Circuit: 单刀双掷; Actuator Style: 矩形柱状; Pin Style: PC引脚; Switch Length: 13mm; Switch Width: 6.8mm; Switch Height: 6.4mm; Actuator Color: 黑色; Current Rating (DC): 3A; Voltage Rating (DC): 125V; Mechanical Life: 1万次; Symbol: SS-12D10L5; Device: SS-12D10L5; LCSC Part Name: 柄长5mm 直插双档 滑动开关; Supplier Part: C319012; Manufacturer Part: SS-12D10L5; Supplier Footprint: 插件; JLCPCB Part Class: Extended Part; Datasheet: https://atta.szlcsc.com/upload/public/pdf/source/20211009/D6412F37AABE6F9459A6EE7FA4DAEADB.pdf; Supplier: LCSC; Convert to PCB: yes; Mounting Style: 直插; Current Rating (AC): 3A; Voltage Rating (AC): 125V; Operating Temperature: -40℃~+85℃
footprint SW-TH_SS-12D10L5
pins: 1, 2, 3

## SS-12D10L5_2
designator SW?, comment SS-12D10L5  (value not drawn)
滑动开关; Manufacturer: XKB Connectivity(中国星坤); Add into BOM: yes; Circuit: 单刀双掷; Actuator Style: 矩形柱状; Pin Style: PC引脚; Switch Length: 13mm; Switch Width: 6.8mm; Switch Height: 6.4mm; Actuator Color: 黑色; Current Rating (DC): 3A; Voltage Rating (DC): 125V; Mechanical Life: 1万次; Symbol: SS-12D10L5; Device: SS-12D10L5; LCSC Part Name: 柄长5mm 直插双档 滑动开关; Supplier Part: C319012; Manufacturer Part: SS-12D10L5; Supplier Footprint: 插件; JLCPCB Part Class: Extended Part; Datasheet: https://atta.szlcsc.com/upload/public/pdf/source/20211009/D6412F37AABE6F9459A6EE7FA4DAEADB.pdf; Supplier: LCSC; Convert to PCB: yes; Mounting Style: 直插; Current Rating (AC): 3A; Voltage Rating (AC): 125V; Operating Temperature: -40℃~+85℃
footprint SW-TH_SS-12D10L5
pins: 1, 2, 3

## STM32F103C8T6
designator U?
STM32 ARM-based 32-bit MCU Performance Line with 64 kB Flash, 20 kB Internal RAM, -40 to +85癈 Temperature, 48-Pin LQFP, Tray; DatasheetVersion: rev13.0, Apr-2011; PackageVersion: rev13, Apr-2011; PackageReference: LQFP48; PackageDescription: 48-Pin Low-Profile Quad Flat Pack, 7 x 7 mm Body, 0.5 mm Pitch (LQFP48); ComponentLink1Description: Manufacturer URL; ComponentLink1URL: http://www.st.com/; ComponentLink2Description: STM32F103 Datasheet; ComponentLink2URL: http://www.st.com/internet/com/TECHNICAL_RESOURCES/TECHNICAL_LITERATURE/DATASHEET/CD00161566.pdf; ComponentLink3Description: STM32 Family Web Page; ComponentLink3URL: www.st.com/stm32; 联系售后: https://shop463601444.taobao.com
footprint LQFP48_N (Thin QFP, 48-Leads, Body 7x7mm, Pitch 0.5mm, IPC Medium Density)
footprint LQFP48_L (Thin QFP, 48-Leads, Body 7x7mm, Pitch 0.5mm, IPC High Density)
footprint LQFP48_M (Thin QFP, 48-Leads, Body 7x7mm, Pitch 0.5mm, IPC Low Density)
part A pins: 2 PC13-TAMPER-RTC (io), 3 PC14-OSC32_IN (io), 4 PC15-OSC32_OUT (io), 5 PD0-OSC_IN (io), 6 PD1 (io), 7 NRST (io), 10 PA0-WKUP (io), 11 PA1 (io), 12 PA2 (io), 13 PA3 (io), 14 PA4 (io), 15 PA5 (io), 16 PA6 (io), 17 PA7 (io), 18 PB0 (io), 19 PB1 (io), 20 PB2 (io), 21 PB10 (io), 22 PB11 (io), 25 PB12 (io), 26 PB13 (io), 27 PB14 (io), 28 PB15 (io), 29 PA8 (io), 30 PA9 (io), 31 PA10 (io), 32 PA11 (io), 33 PA12 (io), 34 PA13 (io), 37 PA14 (io), 38 PA15 (io), 39 PB3 (io), 40 PB4 (io), 41 PB5 (io), 42 PB6 (io), 43 PB7 (io), 44 BOOT0 (in), 45 PB8 (io), 46 PB9 (io)
part B pins: 1 VBAT (power), 8 VSSA (power), 9 VDDA (power), 23 VSS_1 (power), 24 VDD_1 (power), 35 VSS_2 (power), 36 VDD_2 (power), 47 VSS_3 (power), 48 VDD_3 (power)

## STM32F103C8T6_1
designator U?
STM32 ARM-based 32-bit MCU Performance Line with 64 kB Flash, 20 kB Internal RAM, -40 to +85癈 Temperature, 48-Pin LQFP, Tray; DatasheetVersion: rev13.0, Apr-2011; PackageVersion: rev13, Apr-2011; PackageReference: LQFP48; PackageDescription: 48-Pin Low-Profile Quad Flat Pack, 7 x 7 mm Body, 0.5 mm Pitch (LQFP48); ComponentLink1Description: Manufacturer URL; ComponentLink1URL: http://www.st.com/; ComponentLink2Description: STM32F103 Datasheet; ComponentLink2URL: http://www.st.com/internet/com/TECHNICAL_RESOURCES/TECHNICAL_LITERATURE/DATASHEET/CD00161566.pdf; ComponentLink3Description: STM32 Family Web Page; ComponentLink3URL: www.st.com/stm32; 联系售后: https://shop463601444.taobao.com
footprint LQFP48_N (Thin QFP, 48-Leads, Body 7x7mm, Pitch 0.5mm, IPC Medium Density)
footprint LQFP48_L (Thin QFP, 48-Leads, Body 7x7mm, Pitch 0.5mm, IPC High Density)
footprint LQFP48_M (Thin QFP, 48-Leads, Body 7x7mm, Pitch 0.5mm, IPC Low Density)
part A pins: 2 PC13-TAMPER-RTC (io), 3 PC14-OSC32_IN (io), 4 PC15-OSC32_OUT (io), 5 PD0-OSC_IN (io), 6 PD1 (io), 7 NRST (io), 10 PA0-WKUP (io), 11 PA1 (io), 12 PA2 (io), 13 PA3 (io), 14 PA4 (io), 15 PA5 (io), 16 PA6 (io), 17 PA7 (io), 18 PB0 (io), 19 PB1 (io), 20 PB2 (io), 21 PB10 (io), 22 PB11 (io), 25 PB12 (io), 26 PB13 (io), 27 PB14 (io), 28 PB15 (io), 29 PA8 (io), 30 PA9 (io), 31 PA10 (io), 32 PA11 (io), 33 PA12 (io), 34 PA13 (io), 37 PA14 (io), 38 PA15 (io), 39 PB3 (io), 40 PB4 (io), 41 PB5 (io), 42 PB6 (io), 43 PB7 (io), 44 BOOT0 (in), 45 PB8 (io), 46 PB9 (io)
part B pins: 1 VBAT (power), 8 VSSA (power), 9 VDDA (power), 23 VSS_1 (power), 24 VDD_1 (power), 35 VSS_2 (power), 36 VDD_2 (power), 47 VSS_3 (power), 48 VDD_3 (power)

## STM32F334C8T6
designator U?
footprint LQFP48-7*7 (7x7mm，0.5mm        淘宝ID:黄晶宝石)
pins: 1 VBAT, 2 PC13, 3 PC14/OSC32_IN, 4 PC15/OSC32_OUT, 5 PF0/OSC_IN, 6 PF1/OSC_OUT, 7 /NRST, 8 VSSA/VREF-, 9 VDDA/VREF+, 10 PA0, 11 PA1, 12 PA2, 13 PA3, 14 PA4, 15 PA5, 16 PA6, 17 PA7, 18 PB0, 19 PB1, 20 PB2, 21 PB10, 22 PB11, 23 VSS2, 24 VDD2, 25 PB12, 26 PB13, 27 PB14, 28 PB15, 29 PA8, 30 PA9, 31 PA10, 32 PA11, 33 PA12, 34 PA13, 35 VSS3, 36 VDD3, 37 PA14, 38 PA15, 39 PB3, 40 PB4, 41 PB5, 42 PB6, 43 PB7, 44 BOOT0, 45 PB8, 46 PB9, 47 VSS1, 48 VDD1

## STM32F334C8T6_1
designator U?, comment STM32F334C8T6
footprint LQFP48-7*7 (7x7mm，0.5mm        淘宝ID:黄晶宝石)
pins: 1 VBAT, 2 PC13, 3 PC14/OSC32_IN, 4 PC15/OSC32_OUT, 5 PF0/OSC_IN, 6 PF1/OSC_OUT, 7 /NRST, 8 VSSA/VREF-, 9 VDDA/VREF+, 10 PA0, 11 PA1, 12 PA2, 13 PA3, 14 PA4, 15 PA5, 16 PA6, 17 PA7, 18 PB0, 19 PB1, 20 PB2, 21 PB10, 22 PB11, 23 VSS2, 24 VDD2, 25 PB12, 26 PB13, 27 PB14, 28 PB15, 29 PA8, 30 PA9, 31 PA10, 32 PA11, 33 PA12, 34 PA13, 35 VSS3, 36 VDD3, 37 PA14, 38 PA15, 39 PB3, 40 PB4, 41 PB5, 42 PB6, 43 PB7, 44 BOOT0, 45 PB8, 46 PB9, 47 VSS1, 48 VDD1

## STM32F405RGT6
designator U?
ARM Cortex-M4 32-bit MCU+FPU, 210 DMIPS, 1024 kB Flash, 192 kB Internal RAM, 51 I/Os, 64-pin LQFP, -40 to 85 degC, Tray; Manufacturer: STMicroelectronics; D/A Converter: 2x12-bit; FLASH Size (Prog) (kB): 1024; I/Os (High Current): 51; Internal RAM Size (kB): 192; Operating Frequency(F) (Processor speed) (MHz): 168; Supply Voltage(Vcc) max (V): 3.6; Supply Voltage(Vcc) min (V): 1.8; DatasheetVersion: Rev. 4; PackageVersion: Rev. 4, 06/2013; PackageReference: LQFP64; PackageDescription: 64-Pin Low Profile Quad Flat Package, 10 x 10 mm Body, 0.5 mm Pitch; Supplier 1: Digi-Key; Supplier Part Number 1: 497-11767-ND; Supplier 2: Farnell; Supplier Part Number 2: 2064363; Supplier 3: Newark; Supplier Part Number 3: 73T2329; Supplier 4: Mouser; Supplier Part Number 4: 511-STM32F405RGT6; Core: ARM Cortex-M4; Packing: Tray; Mounting Technology: Surface Mount; PartNumber: STM32F405RGT6; ComponentLink1Description: Manufacturer URL; ComponentLink1URL: http://www.st.com/web/en/home.html; ComponentLink2Description: Datasheet; ComponentLink2URL: http://www.st.com/st-web-ui/static/active/en/resource/technical/document/datasheet/DM00037051.pdf; ComponentLink3Description: Package Specification; ComponentLink3URL: http://www.st.com/st-web-ui/static/active/en/resource/technical/document/datasheet/DM00037051.pdf
footprint LQFP64 10x10_N (64脚，体宽10x10mm，脚距0.5mm)
part A pins: 2 PC13 (io) "PC13/EVENTOUT/RTC_OUT,RTC_TAMP1,RTC_TS", 3 PC14-OSC32_IN(PC14) (io) "PC14-OSC32_IN(PC14)/EVENTOUT/OSC32_IN", 4 PC15-OSC32_OUT(PC15) (io) "PC15-OSC32_OUT(PC15)/EVENTOUT/OSC32_OUT", 5 PH0-OSC_IN(PH0) (io) "PH0-OSC_IN(PH0)/EVENTOUT/OSC_IN", 6 PH1-OSC_OUT(PH1) (io) "PH1-OSC_OUT(PH1)/EVENTOUT/OSC_OUT", 7 NRST (io), 8 PC0 (io) "PC0/OTG_HS_ULPI_STP/EVENTOUT/ADC123_IN10", 9 PC1 (io) "PC1/ETH_MDC/EVENTOUT/ADC123_IN11", 10 PC2 (io) "PC2/SPI2_MISO/OTG_HS_ULPI_DIR/ETH_MII_TXD2/I2S2ext_SD/EVENTOUT/ADC123_IN12", 11 PC3 (io) "PC3/SPI2_MOSI/I2S2_SD/OTG_HS_ULPI_NXT/ETH_MII_TX_CLK/EVENTOUT/ADC123_IN13", 14 PA0-WKUP(PA0) (io) "PA0-WKUP(PA0)/USART2_CTS/UART4_TX/ETH_MII_CRS/TIM2_CH1_ETR/TIM5_CH1/TIM8_ETR/EVENTOUT/ADC123_IN0/WKUP", 15 PA1 (io) "PA1/USART2_RTS/UART4_RX/ETH_RMII_REF_CLK/ETH_MII_RX_CLK/TIM5_CH2/TIM2_CH2/EVENTOUT/ADC123_IN1", 16 PA2 (io) "PA2/USART2_TX/TIM5_CH3/TIM9_CH1/TIM2_CH3/ETH_MDIO/EVENTOUT/ADC123_IN2", 17 PA3 (io) "PA3/USART2_RX/TIM5_CH4/TIM9_CH2/TIM2_CH4/OTG_HS_ULPI_D0/ETH_MII_COL/EVENTOUT/ADC123_IN3", 20 PA4 (io) "PA4/SPI1_NSS/SPI3_NSS/USART2_CK/DCMI_HSYNC/OTG_HS_SOF/I2S3_WS/EVENTOUT/ADC12_IN4/DAC_OUT1", 21 PA5 (io) "PA5/SPI1_SCK/OTG_HS_ULPI_CK/TIM2_CH1_ETR/TIM8_CH1N/EVENTOUT/ADC12_IN5/DAC_OUT2", 22 PA6 (io) "PA6/SPI1_MISO/TIM8_BKIN/TIM13_CH1/DCMI_PIXCLK/TIM3_CH1/TIM1_BKIN/EVENTOUT/ADC12_IN6", 23 PA7 (io) "PA7/SPI1_MOSI/TIM8_CH1N/TIM14_CH1/TIM3_CH2/ETH_MII_RX_DV/TIM1_CH1N/ETH_RMII_CRS_DV/EVENTOUT/ADC12_IN7", 24 PC4 (io) "PC4/ETH_RMII_RX_D0/ETH_MII_RX_D0/EVENTOUT/ADC12_IN14", 25 PC5 (io) "PC5/ETH_RMII_RX_D1/ETH_MII_RX_D1/EVENTOUT/ADC12_IN15", 26 PB0 (io) "PB0/TIM3_CH3/TIM8_CH2N/OTG_HS_ULPI_D1/ETH_MII_RXD2/TIM1_CH2N/EVENTOUT/ADC12_IN8", 27 PB1 (io) "PB1/TIM3_CH4/TIM8_CH3N/OTG_HS_ULPI_D2/ETH_MII_RXD3/TIM1_CH3N/EVENTOUT/ADC12_IN9", 28 PB2-BOOT1(PB2) (io) "PB2-BOOT1(PB2)/EVENTOUT", 29 PB10 (io) "PB10/SPI2_SCK/I2S2_CK/I2C2_SCL/USART3_TX/OTG_HS_ULPI_D3/ETH_MII_RX_ER/TIM2_CH3/EVENTOUT", 30 PB11 (io) "PB11/I2C2_SDA/USART3_RX/OTG_HS_ULPI_D4/ETH_RMII_TX_EN/ETH_MII_TX_EN/TIM2_CH4/EVENTOUT", 31 VCAP_1 (power), 33 PB12 (io) "PB12/SPI2_NSS/I2S2_WS/I2C2_SMBA/USART3_CK/TIM1_BKIN/CAN2_RX/OTG_HS_ULPI_D5/ETH_RMII_TXD0/ETH_MII_TXD0/OTG_HS_ID/EVENTOUT", 34 PB13 (io) "PB13/SPI2_SCK/I2S2_CK/USART3_CTS/TIM1_CH1N/CAN2_TX/OTG_HS_ULPI_D6/ETH_RMII_TXD1/ETH_MII_TXD1/EVENTOUT/OTG_HS_VBUS", 35 PB14 (io) "PB14/SPI2_MISO/TIM1_CH2N/TIM12_CH1/OTG_HS_DM/USART3_RTS/TIM8_CH2N/I2S2ext_SD/EVENTOUT", 36 PB15 (io) "PB15/SPI2_MOSI/I2S2_SD/TIM1_CH3N/TIM8_CH3N/TIM12_CH2/OTG_HS_DP/EVENTOUT/RTC_REFIN", 37 PC6 (io) "PC6/I2S2_MCK/TIM8_CH1/SDIO_D6/USART6_TX/DCMI_D0/TIM3_CH1/EVENTOUT", 38 PC7 (io) "PC7/I2S3_MCK/TIM8_CH2/SDIO_D7/USART6_RX/DCMI_D1/TIM3_CH2/EVENTOUT", 39 PC8 (io) "PC8/TIM8_CH3/SDIO_D0/TIM3_CH3/USART6_CK/DCMI_D2/EVENTOUT", 40 PC9 (io) "PC9/I2S_CKIN/MCO2/TIM8_CH4/SDIO_D1/I2C3_SDA/DCMI_D3/TIM3_CH4/EVENTOUT", 41 PA8 (io) "PA8/MCO1/USART1_CK/TIM1_CH1/I2C3_SCL/OTG_FS_SOF/EVENTOUT", 42 PA9 (io) "PA9/USART1_TX/TIM1_CH2/I2C3_SMBA/DCMI_D0/EVENTOUT/OTG_FS_VBUS", 43 PA10 (io) "PA10/USART1_RX/TIM1_CH3/OTG_FS_ID/DCMI_D1/EVENTOUT", 44 PA11 (io) "PA11/USART1_CTS/CAN1_RX/TIM1_CH4/OTG_FS_DM/EVENTOUT", 45 PA12 (io) "PA12/USART1_RTS/CAN1_TX/TIM1_ETR/OTG_FS_DP/EVENTOUT", 46 PA13(JTMS-SWDIO) (io) "PA13(JTMS-SWDIO)/JTMS-SWDIO/EVENTOUT", 47 VCAP_2 (power), 49 PA14(JTCK-SWCLK) (io) "PA14(JTCK-SWCLK)/JTCK-SWCLK/EVENTOUT", 50 PA15(JTDI) (io) "PA15(JTDI)/JTDI/SPI3_NSS/I2S3_WS/TIM2_CH1_ETR/SPI1_NSS/EVENTOUT", 51 PC10 (io) "PC10/SPI3_SCK/I2S3_CK/UART4_TX/SDIO_D2/DCMI_D8/USART3_TX/EVENTOUT", 52 PC11 (io) "PC11/UART4_RX/SPI3_MISO/SDIO_D3/DCMI_D4/USART3_RX/I2S3ext_SD/EVENTOUT", 53 PC12 (io) "PC12/UART5_TX/SDIO_CK/DCMI_D9/SPI3_MOSI/I2S3_SD/USART3_CK/EVENTOUT", 54 PD2 (io) "PD2/TIM3_ETR/UART5_RX/SDIO_CMD/DCMI_D11/EVENTOUT", 55 PB3(JTDO/TRACESWO) (io) "PB3(JTDO/TRACESWO)/JTDO/TRACESWO/SPI3_SCK/I2S3_CK/TIM2_CH2/SPI1_SCK/EVENTOUT", 56 PB4(NJTRST) (io) "PB4(NJTRST)/NJTRST/SPI3_MISO/TIM3_CH1/SPI1_MISO/I2S3ext_SD/EVENTOUT", 57 PB5 (io) "PB5/I2C1_SMBA/CAN2_RX/OTG_HS_ULPI_D7/ETH_PPS_OUT/TIM3_CH2/SPI1_MOSI/SPI3_MOSI/DCMI_D10/I2S3_SD/EVENTOUT", 58 PB6 (io) "PB6/I2C1_SCL/TIM4_CH1/CAN2_TX/DCMI_D5/USART1_TX/EVENTOUT", 59 PB7 (io) "PB7/I2C1_SDA/FSMC_NL/DCMI_VSYNC/USART1_RX/TIM4_CH2/EVENTOUT", 60 BOOT0 (in) "BOOT0/VPP", 61 PB8 (io) "PB8/TIM4_CH3/SDIO_D4/TIM10_CH1/DCMI_D6/ETH_MII_TXD3/I2C1_SCL/CAN1_RX/EVENTOUT", 62 PB9 (io) "PB9/SPI2_NSS/I2S2_WS/TIM4_CH4/TIM11_CH1/SDIO_D5/DCMI_D7/I2C1_SDA/CAN1_TX/EVENTOUT"
part B pins: 1 VBAT (power), 12 VSSA (power), 13 VDDA (power), 18 VSS (power), 19 VDD (power), 32 VDD (power), 48 VDD (power), 63 VSS (power), 64 VDD (power)

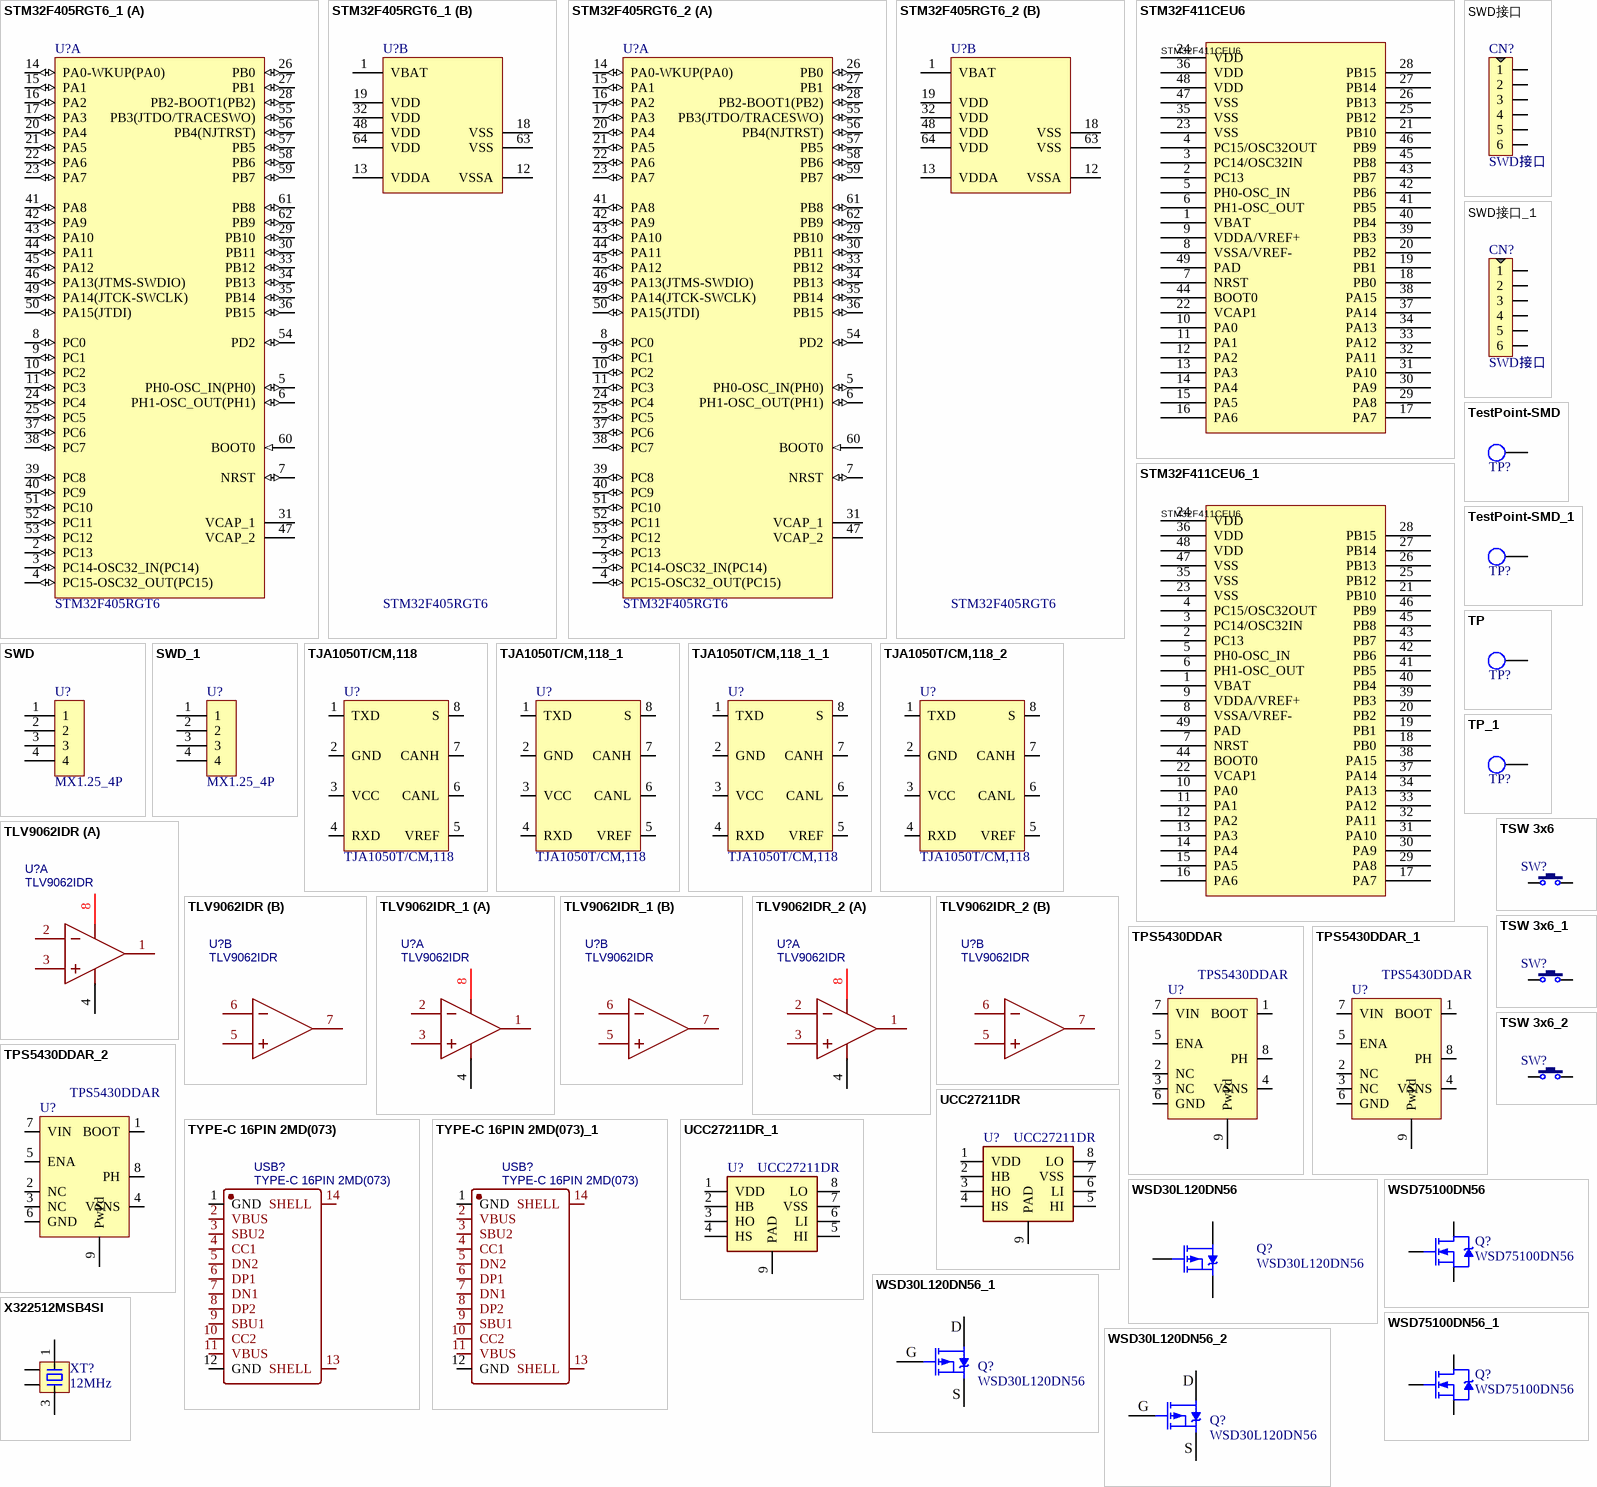
[diagram p4: symbols STM32F405RGT6_1 to X322512MSB4SI]

## STM32F405RGT6_1
designator U?, comment STM32F405RGT6
ARM Cortex-M4 32-bit MCU+FPU, 210 DMIPS, 1024 kB Flash, 192 kB Internal RAM, 51 I/Os, 64-pin LQFP, -40 to 85 degC, Tray; Manufacturer: STMicroelectronics; D/A Converter: 2x12-bit; FLASH Size (Prog) (kB): 1024; I/Os (High Current): 51; Internal RAM Size (kB): 192; Operating Frequency(F) (Processor speed) (MHz): 168; Supply Voltage(Vcc) max (V): 3.6; Supply Voltage(Vcc) min (V): 1.8; DatasheetVersion: Rev. 4; PackageVersion: Rev. 4, 06/2013; PackageReference: LQFP64; PackageDescription: 64-Pin Low Profile Quad Flat Package, 10 x 10 mm Body, 0.5 mm Pitch; Supplier 1: Digi-Key; Supplier Part Number 1: 497-11767-ND; Supplier 2: Farnell; Supplier Part Number 2: 2064363; Supplier 3: Newark; Supplier Part Number 3: 73T2329; Supplier 4: Mouser; Supplier Part Number 4: 511-STM32F405RGT6; Core: ARM Cortex-M4; Packing: Tray; Mounting Technology: Surface Mount; PartNumber: STM32F405RGT6; ComponentLink1Description: Manufacturer URL; ComponentLink1URL: http://www.st.com/web/en/home.html; ComponentLink2Description: Datasheet; ComponentLink2URL: http://www.st.com/st-web-ui/static/active/en/resource/technical/document/datasheet/DM00037051.pdf; ComponentLink3Description: Package Specification; ComponentLink3URL: http://www.st.com/st-web-ui/static/active/en/resource/technical/document/datasheet/DM00037051.pdf
footprint LQFP64 10x10_N (64脚，体宽10x10mm，脚距0.5mm)
part A pins: 2 PC13 (io) "PC13/EVENTOUT/RTC_OUT,RTC_TAMP1,RTC_TS", 3 PC14-OSC32_IN(PC14) (io) "PC14-OSC32_IN(PC14)/EVENTOUT/OSC32_IN", 4 PC15-OSC32_OUT(PC15) (io) "PC15-OSC32_OUT(PC15)/EVENTOUT/OSC32_OUT", 5 PH0-OSC_IN(PH0) (io) "PH0-OSC_IN(PH0)/EVENTOUT/OSC_IN", 6 PH1-OSC_OUT(PH1) (io) "PH1-OSC_OUT(PH1)/EVENTOUT/OSC_OUT", 7 NRST (io), 8 PC0 (io) "PC0/OTG_HS_ULPI_STP/EVENTOUT/ADC123_IN10", 9 PC1 (io) "PC1/ETH_MDC/EVENTOUT/ADC123_IN11", 10 PC2 (io) "PC2/SPI2_MISO/OTG_HS_ULPI_DIR/ETH_MII_TXD2/I2S2ext_SD/EVENTOUT/ADC123_IN12", 11 PC3 (io) "PC3/SPI2_MOSI/I2S2_SD/OTG_HS_ULPI_NXT/ETH_MII_TX_CLK/EVENTOUT/ADC123_IN13", 14 PA0-WKUP(PA0) (io) "PA0-WKUP(PA0)/USART2_CTS/UART4_TX/ETH_MII_CRS/TIM2_CH1_ETR/TIM5_CH1/TIM8_ETR/EVENTOUT/ADC123_IN0/WKUP", 15 PA1 (io) "PA1/USART2_RTS/UART4_RX/ETH_RMII_REF_CLK/ETH_MII_RX_CLK/TIM5_CH2/TIM2_CH2/EVENTOUT/ADC123_IN1", 16 PA2 (io) "PA2/USART2_TX/TIM5_CH3/TIM9_CH1/TIM2_CH3/ETH_MDIO/EVENTOUT/ADC123_IN2", 17 PA3 (io) "PA3/USART2_RX/TIM5_CH4/TIM9_CH2/TIM2_CH4/OTG_HS_ULPI_D0/ETH_MII_COL/EVENTOUT/ADC123_IN3", 20 PA4 (io) "PA4/SPI1_NSS/SPI3_NSS/USART2_CK/DCMI_HSYNC/OTG_HS_SOF/I2S3_WS/EVENTOUT/ADC12_IN4/DAC_OUT1", 21 PA5 (io) "PA5/SPI1_SCK/OTG_HS_ULPI_CK/TIM2_CH1_ETR/TIM8_CH1N/EVENTOUT/ADC12_IN5/DAC_OUT2", 22 PA6 (io) "PA6/SPI1_MISO/TIM8_BKIN/TIM13_CH1/DCMI_PIXCLK/TIM3_CH1/TIM1_BKIN/EVENTOUT/ADC12_IN6", 23 PA7 (io) "PA7/SPI1_MOSI/TIM8_CH1N/TIM14_CH1/TIM3_CH2/ETH_MII_RX_DV/TIM1_CH1N/ETH_RMII_CRS_DV/EVENTOUT/ADC12_IN7", 24 PC4 (io) "PC4/ETH_RMII_RX_D0/ETH_MII_RX_D0/EVENTOUT/ADC12_IN14", 25 PC5 (io) "PC5/ETH_RMII_RX_D1/ETH_MII_RX_D1/EVENTOUT/ADC12_IN15", 26 PB0 (io) "PB0/TIM3_CH3/TIM8_CH2N/OTG_HS_ULPI_D1/ETH_MII_RXD2/TIM1_CH2N/EVENTOUT/ADC12_IN8", 27 PB1 (io) "PB1/TIM3_CH4/TIM8_CH3N/OTG_HS_ULPI_D2/ETH_MII_RXD3/TIM1_CH3N/EVENTOUT/ADC12_IN9", 28 PB2-BOOT1(PB2) (io) "PB2-BOOT1(PB2)/EVENTOUT", 29 PB10 (io) "PB10/SPI2_SCK/I2S2_CK/I2C2_SCL/USART3_TX/OTG_HS_ULPI_D3/ETH_MII_RX_ER/TIM2_CH3/EVENTOUT", 30 PB11 (io) "PB11/I2C2_SDA/USART3_RX/OTG_HS_ULPI_D4/ETH_RMII_TX_EN/ETH_MII_TX_EN/TIM2_CH4/EVENTOUT", 31 VCAP_1 (power), 33 PB12 (io) "PB12/SPI2_NSS/I2S2_WS/I2C2_SMBA/USART3_CK/TIM1_BKIN/CAN2_RX/OTG_HS_ULPI_D5/ETH_RMII_TXD0/ETH_MII_TXD0/OTG_HS_ID/EVENTOUT", 34 PB13 (io) "PB13/SPI2_SCK/I2S2_CK/USART3_CTS/TIM1_CH1N/CAN2_TX/OTG_HS_ULPI_D6/ETH_RMII_TXD1/ETH_MII_TXD1/EVENTOUT/OTG_HS_VBUS", 35 PB14 (io) "PB14/SPI2_MISO/TIM1_CH2N/TIM12_CH1/OTG_HS_DM/USART3_RTS/TIM8_CH2N/I2S2ext_SD/EVENTOUT", 36 PB15 (io) "PB15/SPI2_MOSI/I2S2_SD/TIM1_CH3N/TIM8_CH3N/TIM12_CH2/OTG_HS_DP/EVENTOUT/RTC_REFIN", 37 PC6 (io) "PC6/I2S2_MCK/TIM8_CH1/SDIO_D6/USART6_TX/DCMI_D0/TIM3_CH1/EVENTOUT", 38 PC7 (io) "PC7/I2S3_MCK/TIM8_CH2/SDIO_D7/USART6_RX/DCMI_D1/TIM3_CH2/EVENTOUT", 39 PC8 (io) "PC8/TIM8_CH3/SDIO_D0/TIM3_CH3/USART6_CK/DCMI_D2/EVENTOUT", 40 PC9 (io) "PC9/I2S_CKIN/MCO2/TIM8_CH4/SDIO_D1/I2C3_SDA/DCMI_D3/TIM3_CH4/EVENTOUT", 41 PA8 (io) "PA8/MCO1/USART1_CK/TIM1_CH1/I2C3_SCL/OTG_FS_SOF/EVENTOUT", 42 PA9 (io) "PA9/USART1_TX/TIM1_CH2/I2C3_SMBA/DCMI_D0/EVENTOUT/OTG_FS_VBUS", 43 PA10 (io) "PA10/USART1_RX/TIM1_CH3/OTG_FS_ID/DCMI_D1/EVENTOUT", 44 PA11 (io) "PA11/USART1_CTS/CAN1_RX/TIM1_CH4/OTG_FS_DM/EVENTOUT", 45 PA12 (io) "PA12/USART1_RTS/CAN1_TX/TIM1_ETR/OTG_FS_DP/EVENTOUT", 46 PA13(JTMS-SWDIO) (io) "PA13(JTMS-SWDIO)/JTMS-SWDIO/EVENTOUT", 47 VCAP_2 (power), 49 PA14(JTCK-SWCLK) (io) "PA14(JTCK-SWCLK)/JTCK-SWCLK/EVENTOUT", 50 PA15(JTDI) (io) "PA15(JTDI)/JTDI/SPI3_NSS/I2S3_WS/TIM2_CH1_ETR/SPI1_NSS/EVENTOUT", 51 PC10 (io) "PC10/SPI3_SCK/I2S3_CK/UART4_TX/SDIO_D2/DCMI_D8/USART3_TX/EVENTOUT", 52 PC11 (io) "PC11/UART4_RX/SPI3_MISO/SDIO_D3/DCMI_D4/USART3_RX/I2S3ext_SD/EVENTOUT", 53 PC12 (io) "PC12/UART5_TX/SDIO_CK/DCMI_D9/SPI3_MOSI/I2S3_SD/USART3_CK/EVENTOUT", 54 PD2 (io) "PD2/TIM3_ETR/UART5_RX/SDIO_CMD/DCMI_D11/EVENTOUT", 55 PB3(JTDO/TRACESWO) (io) "PB3(JTDO/TRACESWO)/JTDO/TRACESWO/SPI3_SCK/I2S3_CK/TIM2_CH2/SPI1_SCK/EVENTOUT", 56 PB4(NJTRST) (io) "PB4(NJTRST)/NJTRST/SPI3_MISO/TIM3_CH1/SPI1_MISO/I2S3ext_SD/EVENTOUT", 57 PB5 (io) "PB5/I2C1_SMBA/CAN2_RX/OTG_HS_ULPI_D7/ETH_PPS_OUT/TIM3_CH2/SPI1_MOSI/SPI3_MOSI/DCMI_D10/I2S3_SD/EVENTOUT", 58 PB6 (io) "PB6/I2C1_SCL/TIM4_CH1/CAN2_TX/DCMI_D5/USART1_TX/EVENTOUT", 59 PB7 (io) "PB7/I2C1_SDA/FSMC_NL/DCMI_VSYNC/USART1_RX/TIM4_CH2/EVENTOUT", 60 BOOT0 (in) "BOOT0/VPP", 61 PB8 (io) "PB8/TIM4_CH3/SDIO_D4/TIM10_CH1/DCMI_D6/ETH_MII_TXD3/I2C1_SCL/CAN1_RX/EVENTOUT", 62 PB9 (io) "PB9/SPI2_NSS/I2S2_WS/TIM4_CH4/TIM11_CH1/SDIO_D5/DCMI_D7/I2C1_SDA/CAN1_TX/EVENTOUT"
part B pins: 1 VBAT (power), 12 VSSA (power), 13 VDDA (power), 18 VSS (power), 19 VDD (power), 32 VDD (power), 48 VDD (power), 63 VSS (power), 64 VDD (power)